# Altium integrated library Xilinx Spartan-3.IntLib: 75 symbols (part 7 of 16)
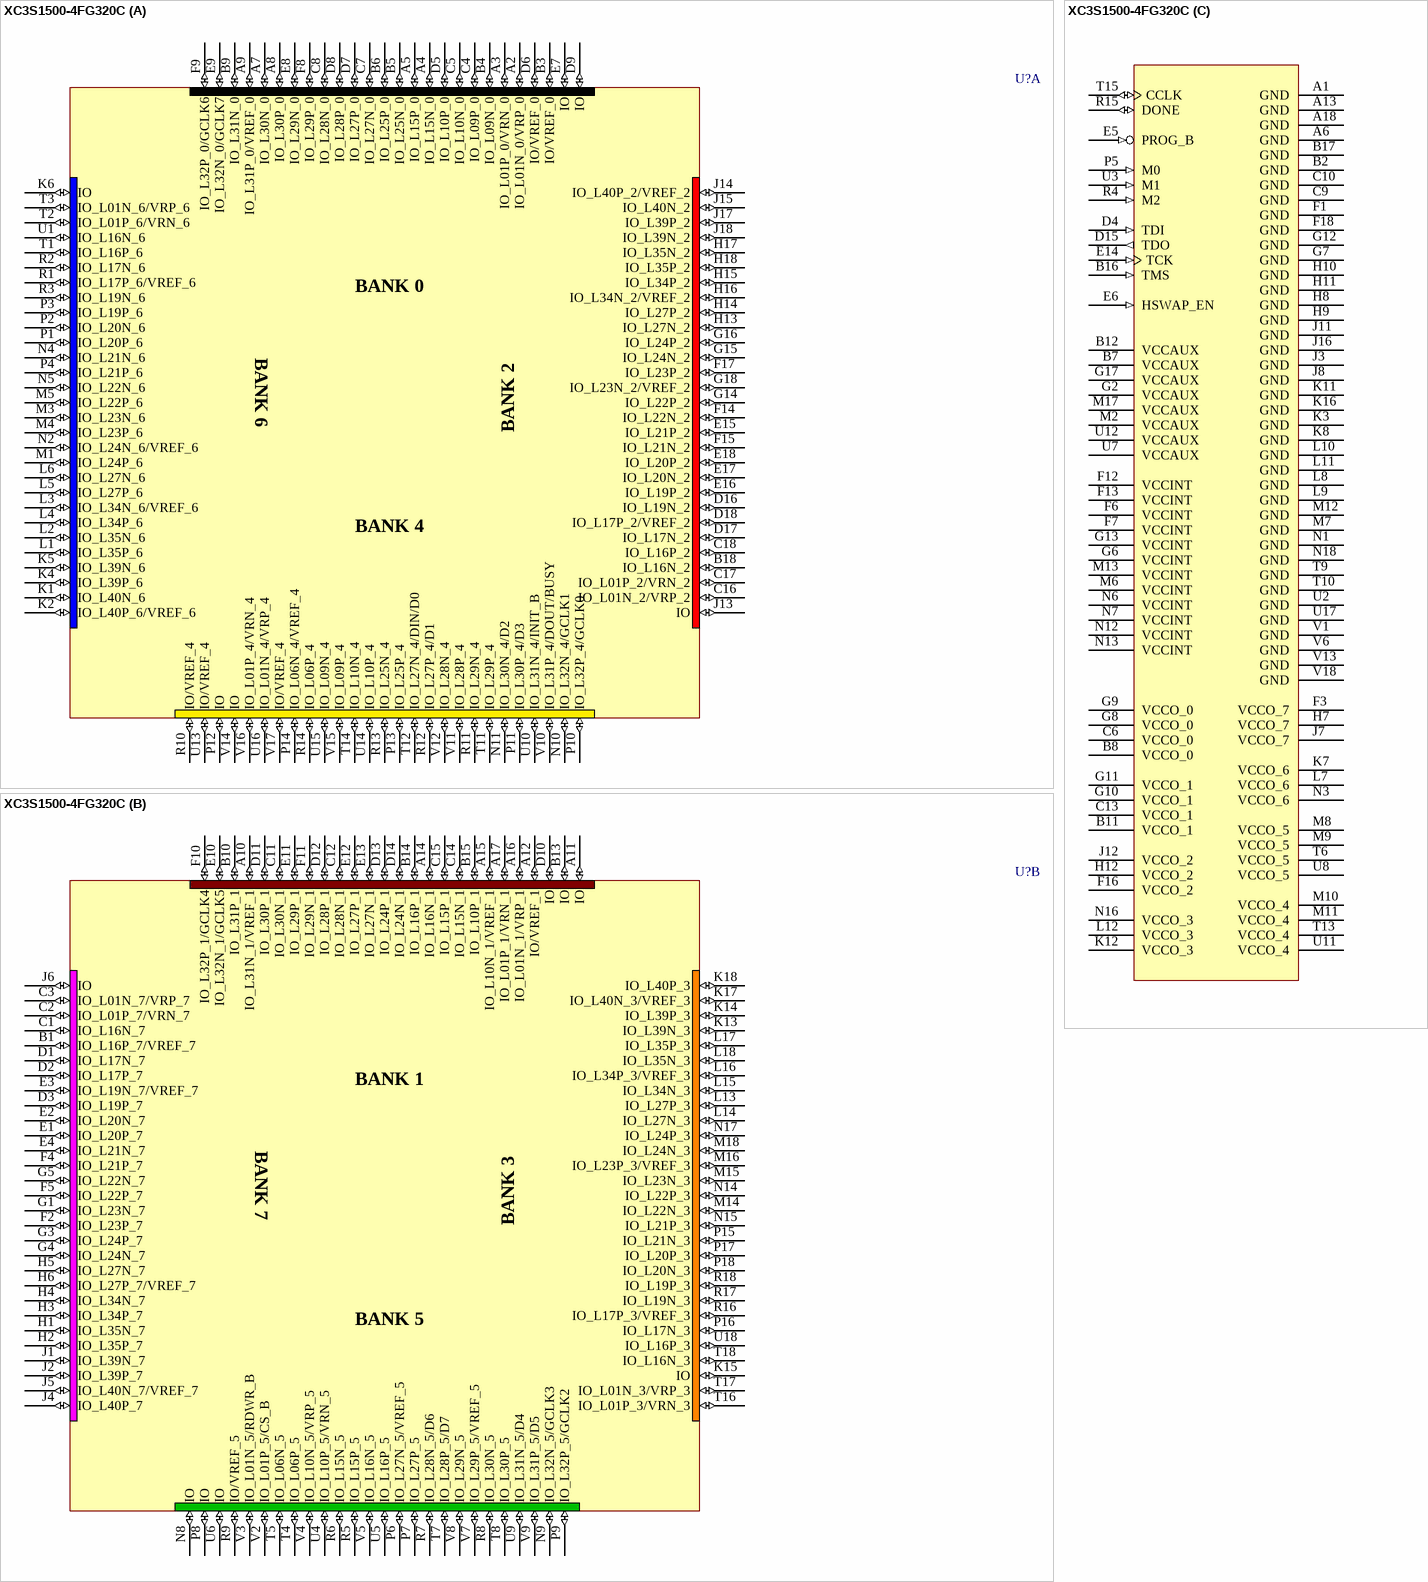
[diagram p173: symbol XC3S1500-4FG320C]

## XC3S1500-4FG320C
designator U?
Spartan-3 1.2V FPGA, 221 User I/Os, 320-ball FBGA, Standard Performance, Commercial Grade; PackageDocument: ver1.0, Jan-2004; Published: 17-Dec-2003; DatasheetDocument: 04-Mar-2004; PackageReference: FG320; Publisher: Altium Limited; Code_JEDEC: MS-034-AAG-1
footprint FG320 (320-Ball Fine-Pitch Ball Grid Array (FG320))
3D model XC3S1500-FG320 (320-Ball Fine-Pitch Ball Grid Array (FG320))
signal-integrity model XC3S1500_FG320 (Spartan-3)
part A pins: A2 IO_L01N_0/VRP_0 (io), A3 IO_L01P_0/VRN_0 (io), A4 IO_L15N_0 (io), A5 IO_L15P_0 (io), A7 IO_L30N_0 (io), A8 IO_L30P_0 (io), A9 IO_L31P_0/VREF_0 (io), B3 IO/VREF_0 (io), B4 IO_L09N_0 (io), B5 IO_L25N_0 (io), B6 IO_L25P_0 (io), B9 IO_L31N_0 (io), B18 IO_L16N_2 (io), C4 IO_L09P_0 (io), C5 IO_L10N_0 (io), C7 IO_L27N_0 (io), C8 IO_L28N_0 (io), C16 IO_L01N_2/VRP_2 (io), C17 IO_L01P_2/VRN_2 (io), C18 IO_L16P_2 (io), D5 IO_L10P_0 (io), D6 IO/VREF_0 (io), D7 IO_L27P_0 (io), D8 IO_L28P_0 (io), D9 IO (io), D16 IO_L19N_2 (io), D17 IO_L17N_2 (io), D18 IO_L17P_2/VREF_2 (io), E7 IO (io), E8 IO_L29N_0 (io), E9 IO_L32N_0/GCLK7 (io), E15 IO_L21P_2 (io), E16 IO_L19P_2 (io), E17 IO_L20N_2 (io), E18 IO_L20P_2 (io), F8 IO_L29P_0 (io), F9 IO_L32P_0/GCLK6 (io), F14 IO_L22N_2 (io), F15 IO_L21N_2 (io), F17 IO_L23P_2 (io), G14 IO_L22P_2 (io), G15 IO_L24N_2 (io), G16 IO_L24P_2 (io), G18 IO_L23N_2/VREF_2 (io), H13 IO_L27N_2 (io), H14 IO_L27P_2 (io), H15 IO_L34P_2 (io), H16 IO_L34N_2/VREF_2 (io), H17 IO_L35N_2 (io), H18 IO_L35P_2 (io), J13 IO (io), J14 IO_L40P_2/VREF_2 (io), J15 IO_L40N_2 (io), J17 IO_L39P_2 (io), J18 IO_L39N_2 (io), K1 IO_L40N_6 (io), K2 IO_L40P_6/VREF_6 (io), K4 IO_L39P_6 (io), K5 IO_L39N_6 (io), K6 IO (io), L1 IO_L35P_6 (io), L2 IO_L35N_6 (io), L3 IO_L34N_6/VREF_6 (io), L4 IO_L34P_6 (io), L5 IO_L27P_6 (io), L6 IO_L27N_6 (io), M1 IO_L24P_6 (io), M3 IO_L23N_6 (io), M4 IO_L23P_6 (io), M5 IO_L22P_6 (io), N2 IO_L24N_6/VREF_6 (io), N4 IO_L21N_6 (io), N5 IO_L22N_6 (io), N10 IO_L32N_4/GCLK1 (io), N11 IO_L30N_4/D2 (io), P1 IO_L20P_6 (io), P2 IO_L20N_6 (io), P3 IO_L19P_6 (io), P4 IO_L21P_6 (io), P10 IO_L32P_4/GCLK0 (io), P11 IO_L30P_4/D3 (io), P12 IO (io), P13 IO_L25P_4 (io), P14 IO_L06N_4/VREF_4 (io), R1 IO_L17P_6/VREF_6 (io), R2 IO_L17N_6 (io), R3 IO_L19N_6 (io), R10 IO/VREF_4 (io), R11 IO_L29N_4 (io), R12 IO_L27P_4/D1 (io), R13 IO_L25N_4 (io), R14 IO_L06P_4 (io), T1 IO_L16P_6 (io), T2 IO_L01P_6/VRN_6 (io), T3 IO_L01N_6/VRP_6 (io), T11 IO_L29P_4 (io), T12 IO_L27N_4/DIN/D0 (io), T14 IO_L10N_4 (io), U1 IO_L16N_6 (io), U10 IO_L31N_4/INIT_B (io), U13 IO/VREF_4 (io), U14 IO_L10P_4 (io), U15 IO_L09N_4 (io), U16 IO_L01N_4/VRP_4 (io), V10 IO_L31P_4/DOUT/BUSY (io), V11 IO_L28P_4 (io), V12 IO_L28N_4 (io), V14 IO (io), V15 IO_L09P_4 (io), V16 IO_L01P_4/VRN_4 (io), V17 IO/VREF_4 (io)
part B pins: A10 IO_L31N_1/VREF_1 (io), A11 IO (io), A12 IO/VREF_1 (io), A14 IO_L16N_1 (io), A15 IO_L10N_1/VREF_1 (io), A16 IO_L01N_1/VRP_1 (io), A17 IO_L01P_1/VRN_1 (io), B1 IO_L16P_7/VREF_7 (io), B10 IO_L31P_1 (io), B13 IO (io), B14 IO_L16P_1 (io), B15 IO_L10P_1 (io), C1 IO_L16N_7 (io), C2 IO_L01P_7/VRN_7 (io), C3 IO_L01N_7/VRP_7 (io), C11 IO_L30N_1 (io), C12 IO_L28N_1 (io), C14 IO_L15N_1 (io), C15 IO_L15P_1 (io), D1 IO_L17N_7 (io), D2 IO_L17P_7 (io), D3 IO_L19P_7 (io), D10 IO (io), D11 IO_L30P_1 (io), D12 IO_L28P_1 (io), D13 IO_L24P_1 (io), D14 IO_L24N_1 (io), E1 IO_L20P_7 (io), E2 IO_L20N_7 (io), E3 IO_L19N_7/VREF_7 (io), E4 IO_L21N_7 (io), E10 IO_L32N_1/GCLK5 (io), E11 IO_L29P_1 (io), E12 IO_L27P_1 (io), E13 IO_L27N_1 (io), F2 IO_L23P_7 (io), F4 IO_L21P_7 (io), F5 IO_L22P_7 (io), F10 IO_L32P_1/GCLK4 (io), F11 IO_L29N_1 (io), G1 IO_L23N_7 (io), G3 IO_L24P_7 (io), G4 IO_L24N_7 (io), G5 IO_L22N_7 (io), H1 IO_L35N_7 (io), H2 IO_L35P_7 (io), H3 IO_L34P_7 (io), H4 IO_L34N_7 (io), H5 IO_L27N_7 (io), H6 IO_L27P_7/VREF_7 (io), J1 IO_L39N_7 (io), J2 IO_L39P_7 (io), J4 IO_L40P_7 (io), J5 IO_L40N_7/VREF_7 (io), J6 IO (io), K13 IO_L39N_3 (io), K14 IO_L39P_3 (io), K15 IO (io), K17 IO_L40N_3/VREF_3 (io), K18 IO_L40P_3 (io), L13 IO_L27P_3 (io), L14 IO_L27N_3 (io), L15 IO_L34N_3 (io), L16 IO_L34P_3/VREF_3 (io), L17 IO_L35P_3 (io), L18 IO_L35N_3 (io), M14 IO_L22N_3 (io), M15 IO_L23N_3 (io), M16 IO_L23P_3/VREF_3 (io), M18 IO_L24N_3 (io), N8 IO (io), N9 IO_L32N_5/GCLK3 (io), N14 IO_L22P_3 (io), N15 IO_L21P_3 (io), N17 IO_L24P_3 (io), P6 IO_L27N_5/VREF_5 (io), P7 IO_L27P_5 (io), P8 IO (io), P9 IO_L32P_5/GCLK2 (io), P15 IO_L21N_3 (io), P16 IO_L17N_3 (io), P17 IO_L20P_3 (io), P18 IO_L20N_3 (io), R5 IO_L15P_5 (io), R6 IO_L15N_5 (io), R7 IO_L28N_5/D6 (io), R8 IO_L30N_5 (io), R9 IO/VREF_5 (io), R16 IO_L17P_3/VREF_3 (io), R17 IO_L19N_3 (io), R18 IO_L19P_3 (io), T4 IO_L06P_5 (io), T5 IO_L06N_5 (io), T7 IO_L28P_5/D7 (io), T8 IO_L30P_5 (io), T16 IO_L01P_3/VRN_3 (io), T17 IO_L01N_3/VRP_3 (io), T18 IO_L16N_3 (io), U4 IO_L10P_5/VRN_5 (io), U5 IO_L16P_5 (io), U6 IO (io), U9 IO_L31N_5/D4 (io), U18 IO_L16P_3 (io), V2 IO_L01P_5/CS_B (io), V3 IO_L01N_5/RDWR_B (io), V4 IO_L10N_5/VRP_5 (io), V5 IO_L16N_5 (io), V7 IO_L29P_5/VREF_5 (io), V8 IO_L29N_5 (io), V9 IO_L31P_5/D5 (io)
part C pins: A1 GND (power), A6 GND (power), A13 GND (power), A18 GND (power), B2 GND (power), B7 VCCAUX (power), B8 VCCO_0 (power), B11 VCCO_1 (power), B12 VCCAUX (power), B16 TMS (in), B17 GND (power), C6 VCCO_0 (power), C9 GND (power), C10 GND (power), C13 VCCO_1 (power), D4 TDI (in), D15 TDO (out), E5 PROG_B (in), E6 HSWAP_EN (in), E14 TCK (in), F1 GND (power), F3 VCCO_7 (power), F6 VCCINT (power), F7 VCCINT (power), F12 VCCINT (power), F13 VCCINT (power), F16 VCCO_2 (power), F18 GND (power), G2 VCCAUX (power), G6 VCCINT (power), G7 GND (power), G8 VCCO_0 (power), G9 VCCO_0 (power), G10 VCCO_1 (power), G11 VCCO_1 (power), G12 GND (power), G13 VCCINT (power), G17 VCCAUX (power), H7 VCCO_7 (power), H8 GND (power), H9 GND (power), H10 GND (power), H11 GND (power), H12 VCCO_2 (power), J3 GND (power), J7 VCCO_7 (power), J8 GND (power), J11 GND (power), J12 VCCO_2 (power), J16 GND (power), K3 GND (power), K7 VCCO_6 (power), K8 GND (power), K11 GND (power), K12 VCCO_3 (power), K16 GND (power), L7 VCCO_6 (power), L8 GND (power), L9 GND (power), L10 GND (power), L11 GND (power), L12 VCCO_3 (power), M2 VCCAUX (power), M6 VCCINT (power), M7 GND (power), M8 VCCO_5 (power), M9 VCCO_5 (power), M10 VCCO_4 (power), M11 VCCO_4 (power), M12 GND (power), M13 VCCINT (power), M17 VCCAUX (power), N1 GND (power), N3 VCCO_6 (power), N6 VCCINT (power), N7 VCCINT (power), N12 VCCINT (power), N13 VCCINT (power), N16 VCCO_3 (power), N18 GND (power), P5 M0 (in), R4 M2 (in), R15 DONE (io), T6 VCCO_5 (power), T9 GND (power), T10 GND (power), T13 VCCO_4 (power), T15 CCLK (io), U2 GND (power), U3 M1 (in), U7 VCCAUX (power), U8 VCCO_5 (power), U11 VCCO_4 (power), U12 VCCAUX (power), U17 GND (power), V1 GND (power), V6 GND (power), V13 GND (power), V18 GND (power)
part A text: BANK 0; BANK 6; BANK 2; BANK 4
part B text: BANK 1; BANK 7; BANK 3; BANK 5

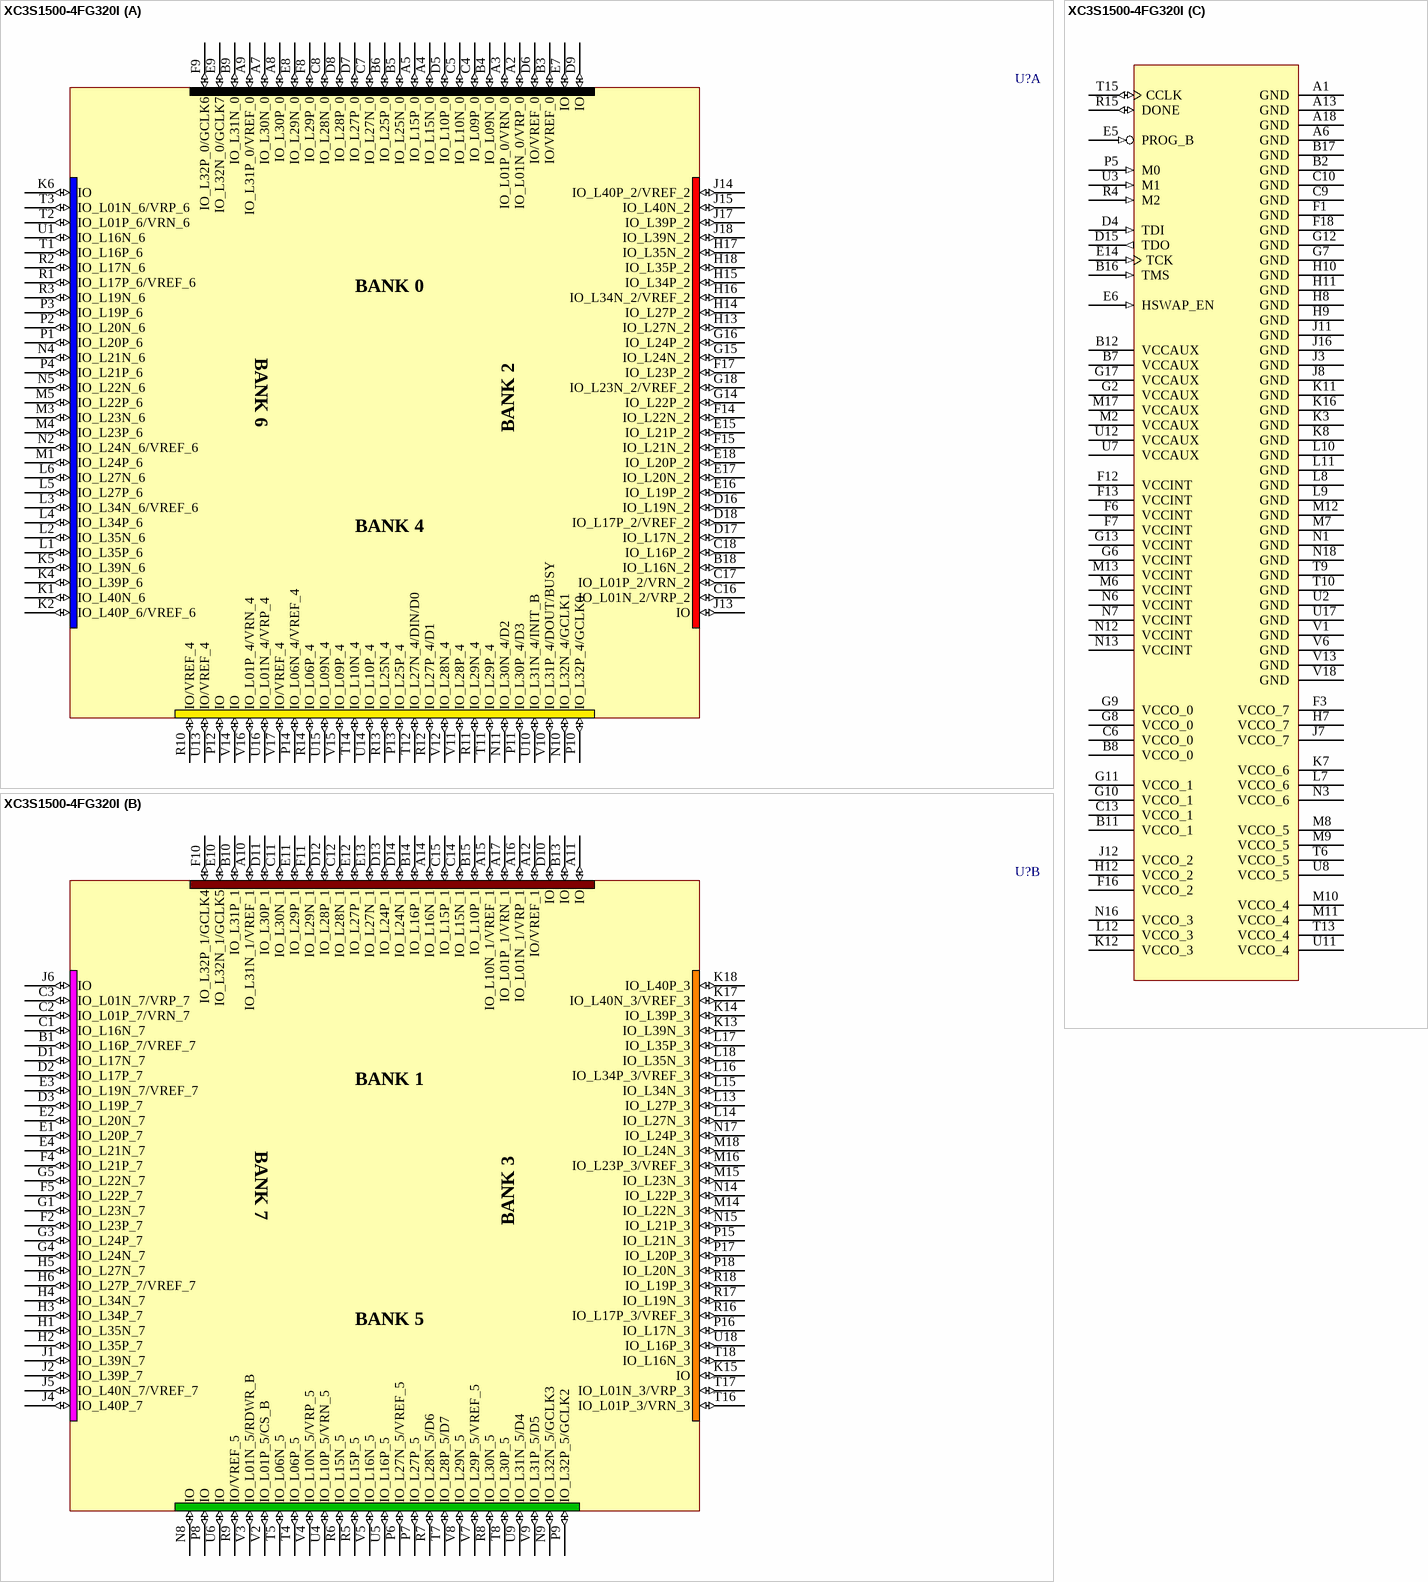
[diagram p61: symbol XC3S1500-4FG320I]

## XC3S1500-4FG320I
designator U?
Spartan-3 1.2V FPGA, 221 User I/Os, 320-ball FBGA, Standard Performance, Industrial Grade; PackageDocument: ver1.0, Jan-2004; Published: 17-Dec-2003; DatasheetDocument: 04-Mar-2004; PackageReference: FG320; Publisher: Altium Limited; Code_JEDEC: MS-034-AAG-1
footprint FG320 (320-Ball Fine-Pitch Ball Grid Array (FG320))
3D model XC3S1500-FG320 (320-Ball Fine-Pitch Ball Grid Array (FG320))
signal-integrity model XC3S1500_FG320 (Spartan-3)
part A pins: A2 IO_L01N_0/VRP_0 (io), A3 IO_L01P_0/VRN_0 (io), A4 IO_L15N_0 (io), A5 IO_L15P_0 (io), A7 IO_L30N_0 (io), A8 IO_L30P_0 (io), A9 IO_L31P_0/VREF_0 (io), B3 IO/VREF_0 (io), B4 IO_L09N_0 (io), B5 IO_L25N_0 (io), B6 IO_L25P_0 (io), B9 IO_L31N_0 (io), B18 IO_L16N_2 (io), C4 IO_L09P_0 (io), C5 IO_L10N_0 (io), C7 IO_L27N_0 (io), C8 IO_L28N_0 (io), C16 IO_L01N_2/VRP_2 (io), C17 IO_L01P_2/VRN_2 (io), C18 IO_L16P_2 (io), D5 IO_L10P_0 (io), D6 IO/VREF_0 (io), D7 IO_L27P_0 (io), D8 IO_L28P_0 (io), D9 IO (io), D16 IO_L19N_2 (io), D17 IO_L17N_2 (io), D18 IO_L17P_2/VREF_2 (io), E7 IO (io), E8 IO_L29N_0 (io), E9 IO_L32N_0/GCLK7 (io), E15 IO_L21P_2 (io), E16 IO_L19P_2 (io), E17 IO_L20N_2 (io), E18 IO_L20P_2 (io), F8 IO_L29P_0 (io), F9 IO_L32P_0/GCLK6 (io), F14 IO_L22N_2 (io), F15 IO_L21N_2 (io), F17 IO_L23P_2 (io), G14 IO_L22P_2 (io), G15 IO_L24N_2 (io), G16 IO_L24P_2 (io), G18 IO_L23N_2/VREF_2 (io), H13 IO_L27N_2 (io), H14 IO_L27P_2 (io), H15 IO_L34P_2 (io), H16 IO_L34N_2/VREF_2 (io), H17 IO_L35N_2 (io), H18 IO_L35P_2 (io), J13 IO (io), J14 IO_L40P_2/VREF_2 (io), J15 IO_L40N_2 (io), J17 IO_L39P_2 (io), J18 IO_L39N_2 (io), K1 IO_L40N_6 (io), K2 IO_L40P_6/VREF_6 (io), K4 IO_L39P_6 (io), K5 IO_L39N_6 (io), K6 IO (io), L1 IO_L35P_6 (io), L2 IO_L35N_6 (io), L3 IO_L34N_6/VREF_6 (io), L4 IO_L34P_6 (io), L5 IO_L27P_6 (io), L6 IO_L27N_6 (io), M1 IO_L24P_6 (io), M3 IO_L23N_6 (io), M4 IO_L23P_6 (io), M5 IO_L22P_6 (io), N2 IO_L24N_6/VREF_6 (io), N4 IO_L21N_6 (io), N5 IO_L22N_6 (io), N10 IO_L32N_4/GCLK1 (io), N11 IO_L30N_4/D2 (io), P1 IO_L20P_6 (io), P2 IO_L20N_6 (io), P3 IO_L19P_6 (io), P4 IO_L21P_6 (io), P10 IO_L32P_4/GCLK0 (io), P11 IO_L30P_4/D3 (io), P12 IO (io), P13 IO_L25P_4 (io), P14 IO_L06N_4/VREF_4 (io), R1 IO_L17P_6/VREF_6 (io), R2 IO_L17N_6 (io), R3 IO_L19N_6 (io), R10 IO/VREF_4 (io), R11 IO_L29N_4 (io), R12 IO_L27P_4/D1 (io), R13 IO_L25N_4 (io), R14 IO_L06P_4 (io), T1 IO_L16P_6 (io), T2 IO_L01P_6/VRN_6 (io), T3 IO_L01N_6/VRP_6 (io), T11 IO_L29P_4 (io), T12 IO_L27N_4/DIN/D0 (io), T14 IO_L10N_4 (io), U1 IO_L16N_6 (io), U10 IO_L31N_4/INIT_B (io), U13 IO/VREF_4 (io), U14 IO_L10P_4 (io), U15 IO_L09N_4 (io), U16 IO_L01N_4/VRP_4 (io), V10 IO_L31P_4/DOUT/BUSY (io), V11 IO_L28P_4 (io), V12 IO_L28N_4 (io), V14 IO (io), V15 IO_L09P_4 (io), V16 IO_L01P_4/VRN_4 (io), V17 IO/VREF_4 (io)
part B pins: A10 IO_L31N_1/VREF_1 (io), A11 IO (io), A12 IO/VREF_1 (io), A14 IO_L16N_1 (io), A15 IO_L10N_1/VREF_1 (io), A16 IO_L01N_1/VRP_1 (io), A17 IO_L01P_1/VRN_1 (io), B1 IO_L16P_7/VREF_7 (io), B10 IO_L31P_1 (io), B13 IO (io), B14 IO_L16P_1 (io), B15 IO_L10P_1 (io), C1 IO_L16N_7 (io), C2 IO_L01P_7/VRN_7 (io), C3 IO_L01N_7/VRP_7 (io), C11 IO_L30N_1 (io), C12 IO_L28N_1 (io), C14 IO_L15N_1 (io), C15 IO_L15P_1 (io), D1 IO_L17N_7 (io), D2 IO_L17P_7 (io), D3 IO_L19P_7 (io), D10 IO (io), D11 IO_L30P_1 (io), D12 IO_L28P_1 (io), D13 IO_L24P_1 (io), D14 IO_L24N_1 (io), E1 IO_L20P_7 (io), E2 IO_L20N_7 (io), E3 IO_L19N_7/VREF_7 (io), E4 IO_L21N_7 (io), E10 IO_L32N_1/GCLK5 (io), E11 IO_L29P_1 (io), E12 IO_L27P_1 (io), E13 IO_L27N_1 (io), F2 IO_L23P_7 (io), F4 IO_L21P_7 (io), F5 IO_L22P_7 (io), F10 IO_L32P_1/GCLK4 (io), F11 IO_L29N_1 (io), G1 IO_L23N_7 (io), G3 IO_L24P_7 (io), G4 IO_L24N_7 (io), G5 IO_L22N_7 (io), H1 IO_L35N_7 (io), H2 IO_L35P_7 (io), H3 IO_L34P_7 (io), H4 IO_L34N_7 (io), H5 IO_L27N_7 (io), H6 IO_L27P_7/VREF_7 (io), J1 IO_L39N_7 (io), J2 IO_L39P_7 (io), J4 IO_L40P_7 (io), J5 IO_L40N_7/VREF_7 (io), J6 IO (io), K13 IO_L39N_3 (io), K14 IO_L39P_3 (io), K15 IO (io), K17 IO_L40N_3/VREF_3 (io), K18 IO_L40P_3 (io), L13 IO_L27P_3 (io), L14 IO_L27N_3 (io), L15 IO_L34N_3 (io), L16 IO_L34P_3/VREF_3 (io), L17 IO_L35P_3 (io), L18 IO_L35N_3 (io), M14 IO_L22N_3 (io), M15 IO_L23N_3 (io), M16 IO_L23P_3/VREF_3 (io), M18 IO_L24N_3 (io), N8 IO (io), N9 IO_L32N_5/GCLK3 (io), N14 IO_L22P_3 (io), N15 IO_L21P_3 (io), N17 IO_L24P_3 (io), P6 IO_L27N_5/VREF_5 (io), P7 IO_L27P_5 (io), P8 IO (io), P9 IO_L32P_5/GCLK2 (io), P15 IO_L21N_3 (io), P16 IO_L17N_3 (io), P17 IO_L20P_3 (io), P18 IO_L20N_3 (io), R5 IO_L15P_5 (io), R6 IO_L15N_5 (io), R7 IO_L28N_5/D6 (io), R8 IO_L30N_5 (io), R9 IO/VREF_5 (io), R16 IO_L17P_3/VREF_3 (io), R17 IO_L19N_3 (io), R18 IO_L19P_3 (io), T4 IO_L06P_5 (io), T5 IO_L06N_5 (io), T7 IO_L28P_5/D7 (io), T8 IO_L30P_5 (io), T16 IO_L01P_3/VRN_3 (io), T17 IO_L01N_3/VRP_3 (io), T18 IO_L16N_3 (io), U4 IO_L10P_5/VRN_5 (io), U5 IO_L16P_5 (io), U6 IO (io), U9 IO_L31N_5/D4 (io), U18 IO_L16P_3 (io), V2 IO_L01P_5/CS_B (io), V3 IO_L01N_5/RDWR_B (io), V4 IO_L10N_5/VRP_5 (io), V5 IO_L16N_5 (io), V7 IO_L29P_5/VREF_5 (io), V8 IO_L29N_5 (io), V9 IO_L31P_5/D5 (io)
part C pins: A1 GND (power), A6 GND (power), A13 GND (power), A18 GND (power), B2 GND (power), B7 VCCAUX (power), B8 VCCO_0 (power), B11 VCCO_1 (power), B12 VCCAUX (power), B16 TMS (in), B17 GND (power), C6 VCCO_0 (power), C9 GND (power), C10 GND (power), C13 VCCO_1 (power), D4 TDI (in), D15 TDO (out), E5 PROG_B (in), E6 HSWAP_EN (in), E14 TCK (in), F1 GND (power), F3 VCCO_7 (power), F6 VCCINT (power), F7 VCCINT (power), F12 VCCINT (power), F13 VCCINT (power), F16 VCCO_2 (power), F18 GND (power), G2 VCCAUX (power), G6 VCCINT (power), G7 GND (power), G8 VCCO_0 (power), G9 VCCO_0 (power), G10 VCCO_1 (power), G11 VCCO_1 (power), G12 GND (power), G13 VCCINT (power), G17 VCCAUX (power), H7 VCCO_7 (power), H8 GND (power), H9 GND (power), H10 GND (power), H11 GND (power), H12 VCCO_2 (power), J3 GND (power), J7 VCCO_7 (power), J8 GND (power), J11 GND (power), J12 VCCO_2 (power), J16 GND (power), K3 GND (power), K7 VCCO_6 (power), K8 GND (power), K11 GND (power), K12 VCCO_3 (power), K16 GND (power), L7 VCCO_6 (power), L8 GND (power), L9 GND (power), L10 GND (power), L11 GND (power), L12 VCCO_3 (power), M2 VCCAUX (power), M6 VCCINT (power), M7 GND (power), M8 VCCO_5 (power), M9 VCCO_5 (power), M10 VCCO_4 (power), M11 VCCO_4 (power), M12 GND (power), M13 VCCINT (power), M17 VCCAUX (power), N1 GND (power), N3 VCCO_6 (power), N6 VCCINT (power), N7 VCCINT (power), N12 VCCINT (power), N13 VCCINT (power), N16 VCCO_3 (power), N18 GND (power), P5 M0 (in), R4 M2 (in), R15 DONE (io), T6 VCCO_5 (power), T9 GND (power), T10 GND (power), T13 VCCO_4 (power), T15 CCLK (io), U2 GND (power), U3 M1 (in), U7 VCCAUX (power), U8 VCCO_5 (power), U11 VCCO_4 (power), U12 VCCAUX (power), U17 GND (power), V1 GND (power), V6 GND (power), V13 GND (power), V18 GND (power)
part A text: BANK 0; BANK 6; BANK 2; BANK 4
part B text: BANK 1; BANK 7; BANK 3; BANK 5

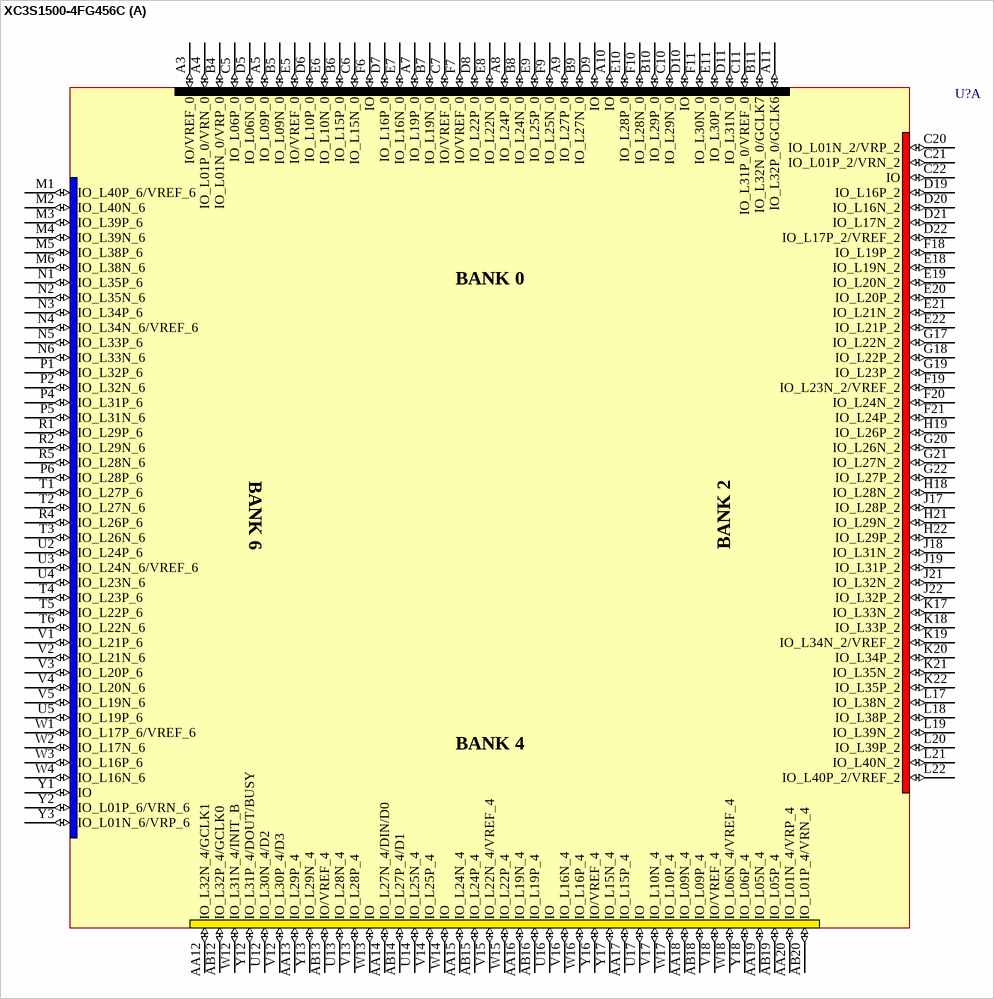
[diagram p62: symbol XC3S1500-4FG456C]

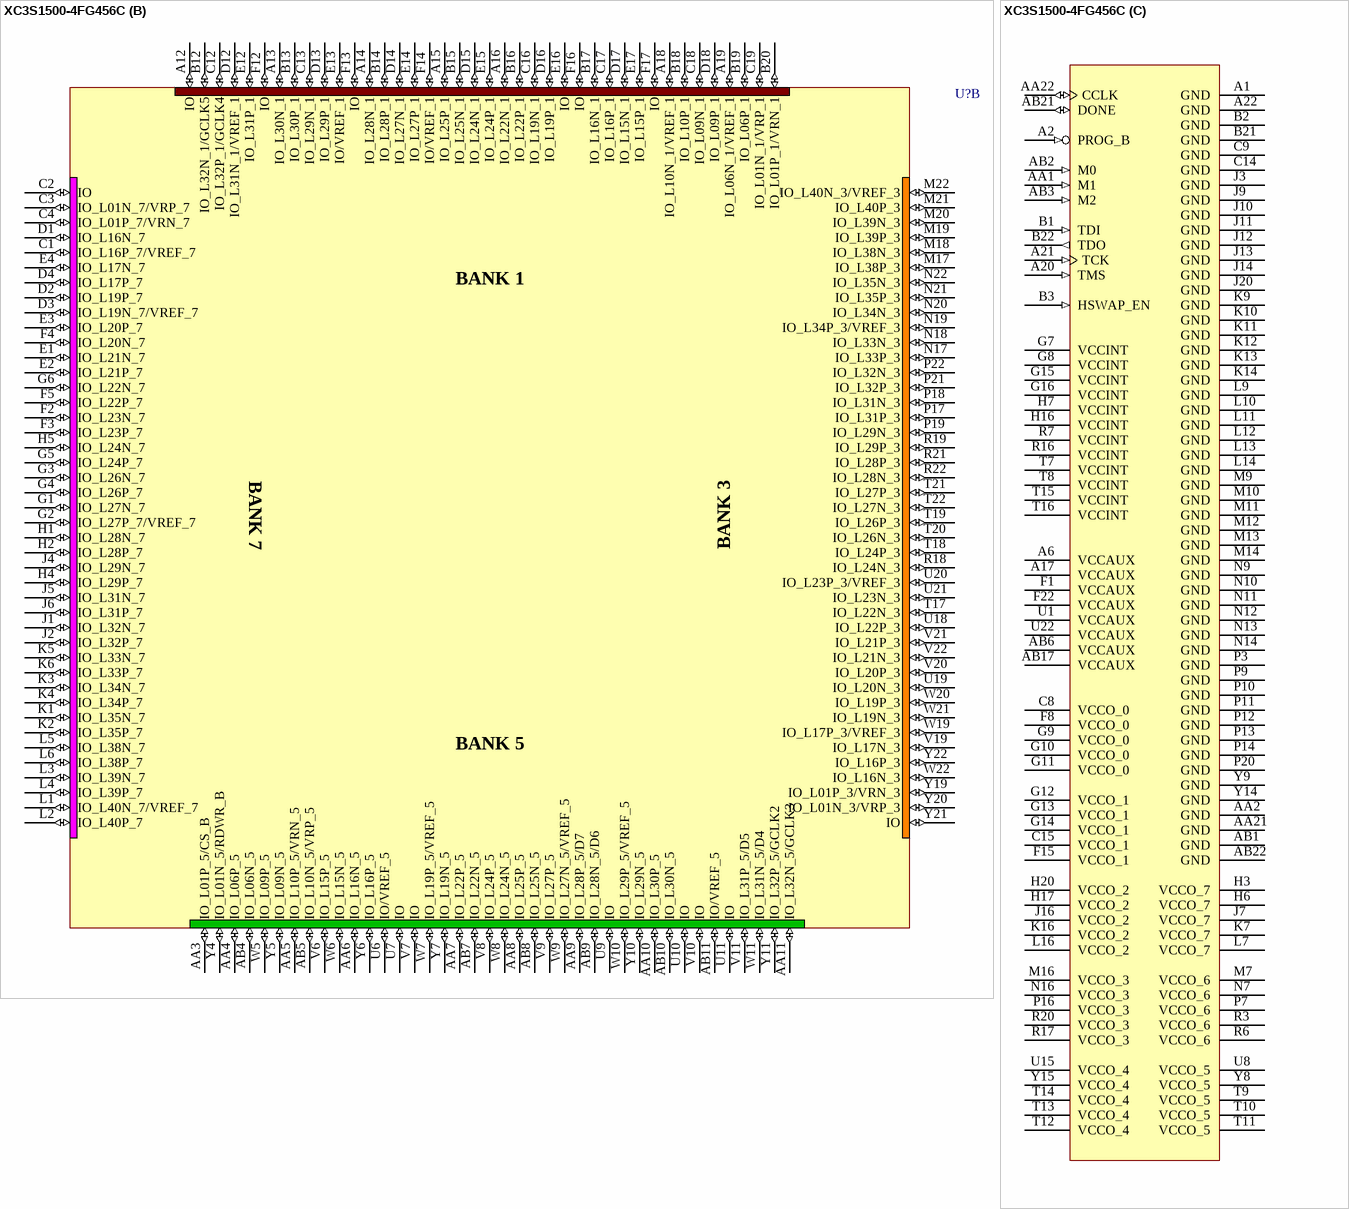
[diagram p63: symbol XC3S1500-4FG456C]

## XC3S1500-4FG456C
designator U?
Spartan-3 1.2V FPGA, 333 User I/Os, 456-ball FBGA, Standard Performance, Commercial Grade; PackageDocument: ver1.1, Apr-2001; Published: 17-Sep-2003; DatasheetDocument: 04-Mar-2004; PackageReference: FG456; Publisher: Altium Limited; Code_JEDEC: MO-151-AAJ-1
footprint FG456 (456-Ball Fine Pitch Ball Grid Array (FG456))
3D model XC3S1500-FG456 (456-Ball Fine Pitch Ball Grid Array (FG456))
signal-integrity model XC3S1500_FG456 (Spartan-3)
part A pins: A3 IO/VREF_0 (io), A4 IO_L01P_0/VRN_0 (io), A5 IO_L09P_0 (io), A7 IO_L19P_0 (io), A8 IO_L24P_0 (io), A9 IO_L27P_0 (io), A10 IO (io), A11 IO_L32P_0/GCLK6 (io), AA12 IO_L32N_4/GCLK1 (io), AA13 IO_L29P_4 (io), AA14 IO_L27N_4/DIN/D0 (io), AA15 IO_L24N_4 (io), AA16 IO_L19N_4 (io), AA17 IO_L15P_4 (io), AA18 IO_L09N_4 (io), AA19 IO_L05N_4 (io), AA20 IO_L01N_4/VRP_4 (io), AB12 IO_L32P_4/GCLK0 (io), AB13 IO/VREF_4 (io), AB14 IO_L27P_4/D1 (io), AB15 IO_L24P_4 (io), AB16 IO_L19P_4 (io), AB18 IO_L09P_4 (io), AB19 IO_L05P_4 (io), AB20 IO_L01P_4/VRN_4 (io), B4 IO_L01N_0/VRP_0 (io), B5 IO_L09N_0 (io), B6 IO_L15P_0 (io), B7 IO_L19N_0 (io), B8 IO_L24N_0 (io), B9 IO_L27N_0 (io), B10 IO_L29P_0 (io), B11 IO_L32N_0/GCLK7 (io), C5 IO_L06P_0 (io), C6 IO_L15N_0 (io), C7 IO/VREF_0 (io), C10 IO_L29N_0 (io), C11 IO_L31P_0/VREF_0 (io), C20 IO_L01N_2/VRP_2 (io), C21 IO_L01P_2/VRN_2 (io), C22 IO (io), D5 IO_L06N_0 (io), D6 IO_L10P_0 (io), D7 IO_L16P_0 (io), D8 IO_L22P_0 (io), D9 IO (io), D10 IO (io), D11 IO_L31N_0 (io), D19 IO_L16P_2 (io), D20 IO_L16N_2 (io), D21 IO_L17N_2 (io), D22 IO_L17P_2/VREF_2 (io), E5 IO/VREF_0 (io), E6 IO_L10N_0 (io), E7 IO_L16N_0 (io), E8 IO_L22N_0 (io), E9 IO_L25P_0 (io), E10 IO_L28P_0 (io), E11 IO_L30P_0 (io), E18 IO_L19N_2 (io), E19 IO_L20N_2 (io), E20 IO_L20P_2 (io), E21 IO_L21N_2 (io), E22 IO_L21P_2 (io), F6 IO (io), F7 IO/VREF_0 (io), F9 IO_L25N_0 (io), F10 IO_L28N_0 (io), F11 IO_L30N_0 (io), F18 IO_L19P_2 (io), F19 IO_L23N_2/VREF_2 (io), F20 IO_L24N_2 (io), F21 IO_L24P_2 (io), G17 IO_L22N_2 (io), G18 IO_L22P_2 (io), G19 IO_L23P_2 (io), G20 IO_L26N_2 (io), G21 IO_L27N_2 (io), G22 IO_L27P_2 (io), H18 IO_L28N_2 (io), H19 IO_L26P_2 (io), H21 IO_L29N_2 (io), H22 IO_L29P_2 (io), J17 IO_L28P_2 (io), J18 IO_L31N_2 (io), J19 IO_L31P_2 (io), J21 IO_L32N_2 (io), J22 IO_L32P_2 (io), K17 IO_L33N_2 (io), K18 IO_L33P_2 (io), K19 IO_L34N_2/VREF_2 (io), K20 IO_L34P_2 (io), K21 IO_L35N_2 (io), K22 IO_L35P_2 (io), L17 IO_L38N_2 (io), L18 IO_L38P_2 (io), L19 IO_L39N_2 (io), L20 IO_L39P_2 (io), L21 IO_L40N_2 (io), L22 IO_L40P_2/VREF_2 (io), M1 IO_L40P_6/VREF_6 (io), M2 IO_L40N_6 (io), M3 IO_L39P_6 (io), M4 IO_L39N_6 (io), M5 IO_L38P_6 (io), M6 IO_L38N_6 (io), N1 IO_L35P_6 (io), N2 IO_L35N_6 (io), N3 IO_L34P_6 (io), N4 IO_L34N_6/VREF_6 (io), N5 IO_L33P_6 (io), N6 IO_L33N_6 (io), P1 IO_L32P_6 (io), P2 IO_L32N_6 (io), P4 IO_L31P_6 (io), P5 IO_L31N_6 (io), P6 IO_L28P_6 (io), R1 IO_L29P_6 (io), R2 IO_L29N_6 (io), R4 IO_L26P_6 (io), R5 IO_L28N_6 (io), T1 IO_L27P_6 (io), T2 IO_L27N_6 (io), T3 IO_L26N_6 (io), T4 IO_L23P_6 (io), T5 IO_L22P_6 (io), T6 IO_L22N_6 (io), U2 IO_L24P_6 (io), U3 IO_L24N_6/VREF_6 (io), U4 IO_L23N_6 (io), U5 IO_L19P_6 (io), U12 IO_L30N_4/D2 (io), U13 IO_L28N_4 (io), U14 IO_L25N_4 (io), U16 IO (io), U17 IO (io), V1 IO_L21P_6 (io), V2 IO_L21N_6 (io), V3 IO_L20P_6 (io), V4 IO_L20N_6 (io), V5 IO_L19N_6 (io), V12 IO_L30P_4/D3 (io), V13 IO_L28P_4 (io), V14 IO_L25P_4 (io), V15 IO_L22N_4/VREF_4 (io), V16 IO_L16N_4 (io), V17 IO_L10N_4 (io), V18 IO/VREF_4 (io), W1 IO_L17P_6/VREF_6 (io), W2 IO_L17N_6 (io), W3 IO_L16P_6 (io), W4 IO_L16N_6 (io), W12 IO_L31N_4/INIT_B (io), W13 IO (io), W14 IO (io), W15 IO_L22P_4 (io), W16 IO_L16P_4 (io), W17 IO_L10P_4 (io), W18 IO_L06N_4/VREF_4 (io), Y1 IO (io), Y2 IO_L01P_6/VRN_6 (io), Y3 IO_L01N_6/VRP_6 (io), Y12 IO_L31P_4/DOUT/BUSY (io), Y13 IO_L29N_4 (io), Y16 IO/VREF_4 (io), Y17 IO_L15N_4 (io), Y18 IO_L06P_4 (io)
part B pins: A12 IO (io), A13 IO_L30N_1 (io), A14 IO_L28N_1 (io), A15 IO_L25P_1 (io), A16 IO_L22N_1 (io), A18 IO_L10N_1/VREF_1 (io), A19 IO_L06N_1/VREF_1 (io), AA3 IO_L01P_5/CS_B (io), AA4 IO_L06P_5 (io), AA5 IO_L10P_5/VRN_5 (io), AA6 IO_L16N_5 (io), AA7 IO_L22P_5 (io), AA8 IO_L25P_5 (io), AA9 IO_L28P_5/D7 (io), AA10 IO_L30P_5 (io), AA11 IO_L32N_5/GCLK3 (io), AB4 IO_L06N_5 (io), AB5 IO_L10N_5/VRP_5 (io), AB7 IO_L22N_5 (io), AB8 IO_L25N_5 (io), AB9 IO_L28N_5/D6 (io), AB10 IO_L30N_5 (io), AB11 IO/VREF_5 (io), B12 IO_L32N_1/GCLK5 (io), B13 IO_L30P_1 (io), B14 IO_L28P_1 (io), B15 IO_L25N_1 (io), B16 IO_L22P_1 (io), B17 IO_L16N_1 (io), B18 IO_L10P_1 (io), B19 IO_L06P_1 (io), B20 IO_L01P_1/VRN_1 (io), C1 IO_L16P_7/VREF_7 (io), C2 IO (io), C3 IO_L01N_7/VRP_7 (io), C4 IO_L01P_7/VRN_7 (io), C12 IO_L32P_1/GCLK4 (io), C13 IO_L29N_1 (io), C16 IO_L19N_1 (io), C17 IO_L16P_1 (io), C18 IO_L09N_1 (io), C19 IO_L01N_1/VRP_1 (io), D1 IO_L16N_7 (io), D2 IO_L19P_7 (io), D3 IO_L19N_7/VREF_7 (io), D4 IO_L17P_7 (io), D12 IO_L31N_1/VREF_1 (io), D13 IO_L29P_1 (io), D14 IO_L27N_1 (io), D15 IO_L24N_1 (io), D16 IO_L19P_1 (io), D17 IO_L15N_1 (io), D18 IO_L09P_1 (io), E1 IO_L21N_7 (io), E2 IO_L21P_7 (io), E3 IO_L20P_7 (io), E4 IO_L17N_7 (io), E12 IO_L31P_1 (io), E13 IO/VREF_1 (io), E14 IO_L27P_1 (io), E15 IO_L24P_1 (io), E16 IO (io), E17 IO_L15P_1 (io), F2 IO_L23N_7 (io), F3 IO_L23P_7 (io), F4 IO_L20N_7 (io), F5 IO_L22P_7 (io), F12 IO (io), F13 IO (io), F14 IO/VREF_1 (io), F16 IO (io), F17 IO (io), G1 IO_L27N_7 (io), G2 IO_L27P_7/VREF_7 (io), G3 IO_L26N_7 (io), G4 IO_L26P_7 (io), G5 IO_L24P_7 (io), G6 IO_L22N_7 (io), H1 IO_L28N_7 (io), H2 IO_L28P_7 (io), H4 IO_L29P_7 (io), H5 IO_L24N_7 (io), J1 IO_L32N_7 (io), J2 IO_L32P_7 (io), J4 IO_L29N_7 (io), J5 IO_L31N_7 (io), J6 IO_L31P_7 (io), K1 IO_L35N_7 (io), K2 IO_L35P_7 (io), K3 IO_L34N_7 (io), K4 IO_L34P_7 (io), K5 IO_L33N_7 (io), K6 IO_L33P_7 (io), L1 IO_L40N_7/VREF_7 (io), L2 IO_L40P_7 (io), L3 IO_L39N_7 (io), L4 IO_L39P_7 (io), L5 IO_L38N_7 (io), L6 IO_L38P_7 (io), M17 IO_L38P_3 (io), M18 IO_L38N_3 (io), M19 IO_L39P_3 (io), M20 IO_L39N_3 (io), M21 IO_L40P_3 (io), M22 IO_L40N_3/VREF_3 (io), N17 IO_L33P_3 (io), N18 IO_L33N_3 (io), N19 IO_L34P_3/VREF_3 (io), N20 IO_L34N_3 (io), N21 IO_L35P_3 (io), N22 IO_L35N_3 (io), P17 IO_L31P_3 (io), P18 IO_L31N_3 (io), P19 IO_L29N_3 (io), P21 IO_L32P_3 (io), P22 IO_L32N_3 (io), R18 IO_L24N_3 (io), R19 IO_L29P_3 (io), R21 IO_L28P_3 (io), R22 IO_L28N_3 (io), T17 IO_L22N_3 (io), T18 IO_L24P_3 (io), T19 IO_L26P_3 (io), T20 IO_L26N_3 (io), T21 IO_L27P_3 (io), T22 IO_L27N_3 (io), U6 IO/VREF_5 (io), U7 IO (io), U9 IO (io), U10 IO (io), U11 IO (io), U18 IO_L22P_3 (io), U19 IO_L20N_3 (io), U20 IO_L23P_3/VREF_3 (io), U21 IO_L23N_3 (io), V6 IO_L15P_5 (io), V7 IO (io), V8 IO_L24P_5 (io), V9 IO_L27P_5 (io), V10 IO (io), V11 IO_L31P_5/D5 (io), V19 IO_L17N_3 (io), V20 IO_L20P_3 (io), V21 IO_L21P_3 (io), V22 IO_L21N_3 (io), W5 IO_L09P_5 (io), W6 IO_L15N_5 (io), W7 IO_L19P_5/VREF_5 (io), W8 IO_L24N_5 (io), W9 IO_L27N_5/VREF_5 (io), W10 IO_L29P_5/VREF_5 (io), W11 IO_L31N_5/D4 (io), W19 IO_L17P_3/VREF_3 (io), W20 IO_L19P_3 (io), W21 IO_L19N_3 (io), W22 IO_L16N_3 (io), Y4 IO_L01N_5/RDWR_B (io), Y5 IO_L09N_5 (io), Y6 IO_L16P_5 (io), Y7 IO_L19N_5 (io), Y10 IO_L29N_5 (io), Y11 IO_L32P_5/GCLK2 (io), Y19 IO_L01P_3/VRN_3 (io), Y20 IO_L01N_3/VRP_3 (io), Y21 IO (io), Y22 IO_L16P_3 (io)
part C pins: A1 GND (power), A2 PROG_B (in), A6 VCCAUX (power), A17 VCCAUX (power), A20 TMS (in), A21 TCK (in), A22 GND (power), AA1 M1 (in), AA2 GND (power), AA21 GND (power), AA22 CCLK (io), AB1 GND (power), AB2 M0 (in), AB3 M2 (in), AB6 VCCAUX (power), AB17 VCCAUX (power), AB21 DONE (io), AB22 GND (power), B1 TDI (in), B2 GND (power), B3 HSWAP_EN (in), B21 GND (power), B22 TDO (out), C8 VCCO_0 (power), C9 GND (power), C14 GND (power), C15 VCCO_1 (power), F1 VCCAUX (power), F8 VCCO_0 (power), F15 VCCO_1 (power), F22 VCCAUX (power), G7 VCCINT (power), G8 VCCINT (power), G9 VCCO_0 (power), G10 VCCO_0 (power), G11 VCCO_0 (power), G12 VCCO_1 (power), G13 VCCO_1 (power), G14 VCCO_1 (power), G15 VCCINT (power), G16 VCCINT (power), H3 VCCO_7 (power), H6 VCCO_7 (power), H7 VCCINT (power), H16 VCCINT (power), H17 VCCO_2 (power), H20 VCCO_2 (power), J3 GND (power), J7 VCCO_7 (power), J9 GND (power), J10 GND (power), J11 GND (power), J12 GND (power), J13 GND (power), J14 GND (power), J16 VCCO_2 (power), J20 GND (power), K7 VCCO_7 (power), K9 GND (power), K10 GND (power), K11 GND (power), K12 GND (power), K13 GND (power), K14 GND (power), K16 VCCO_2 (power), L7 VCCO_7 (power), L9 GND (power), L10 GND (power), L11 GND (power), L12 GND (power), L13 GND (power), L14 GND (power), L16 VCCO_2 (power), M7 VCCO_6 (power), M9 GND (power), M10 GND (power), M11 GND (power), M12 GND (power), M13 GND (power), M14 GND (power), M16 VCCO_3 (power), N7 VCCO_6 (power), N9 GND (power), N10 GND (power), N11 GND (power), N12 GND (power), N13 GND (power), N14 GND (power), N16 VCCO_3 (power), P3 GND (power), P7 VCCO_6 (power), P9 GND (power), P10 GND (power), P11 GND (power), P12 GND (power), P13 GND (power), P14 GND (power), P16 VCCO_3 (power), P20 GND (power), R3 VCCO_6 (power), R6 VCCO_6 (power), R7 VCCINT (power), R16 VCCINT (power), R17 VCCO_3 (power), R20 VCCO_3 (power), T7 VCCINT (power), T8 VCCINT (power), T9 VCCO_5 (power), T10 VCCO_5 (power), T11 VCCO_5 (power), T12 VCCO_4 (power), T13 VCCO_4 (power), T14 VCCO_4 (power), T15 VCCINT (power), T16 VCCINT (power), U1 VCCAUX (power), U8 VCCO_5 (power), U15 VCCO_4 (power), U22 VCCAUX (power), Y8 VCCO_5 (power), Y9 GND (power), Y14 GND (power), Y15 VCCO_4 (power)
part A text: BANK 0; BANK 6; BANK 2; BANK 4
part B text: BANK 1; BANK 7; BANK 3; BANK 5

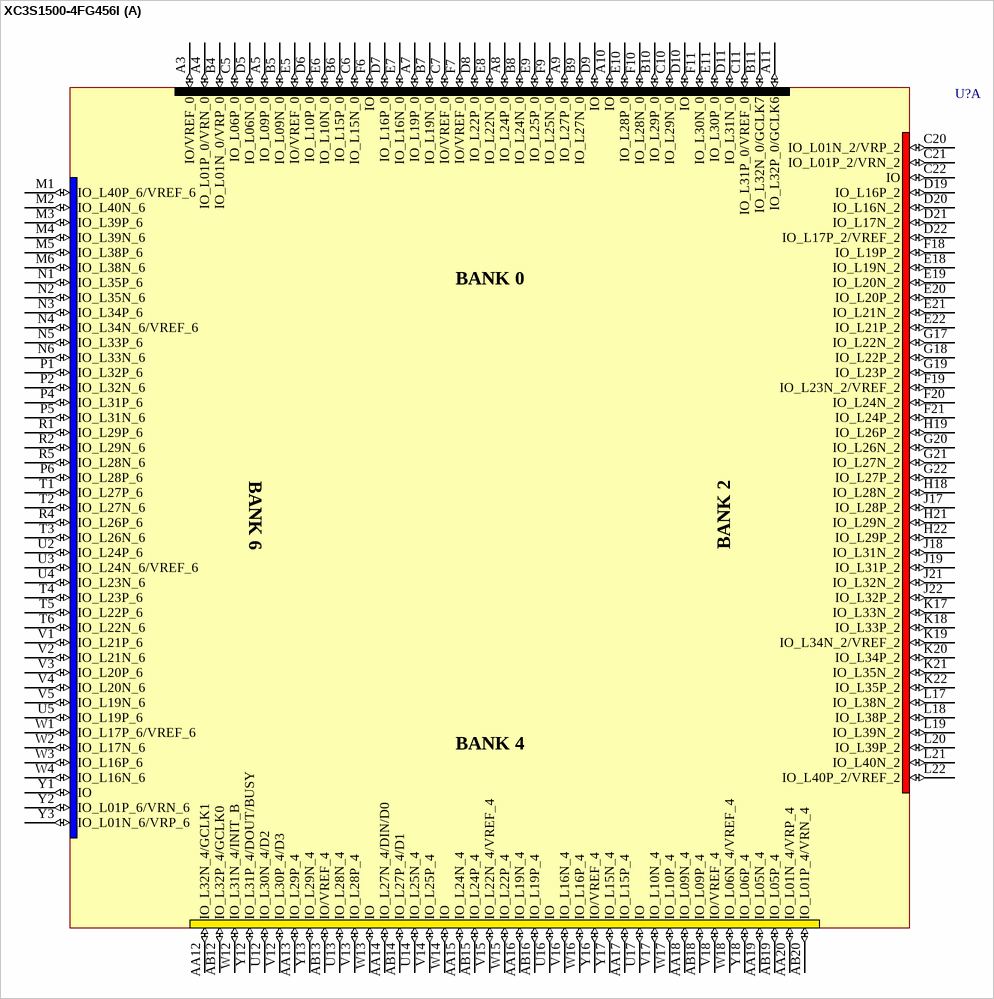
[diagram p64: symbol XC3S1500-4FG456I]

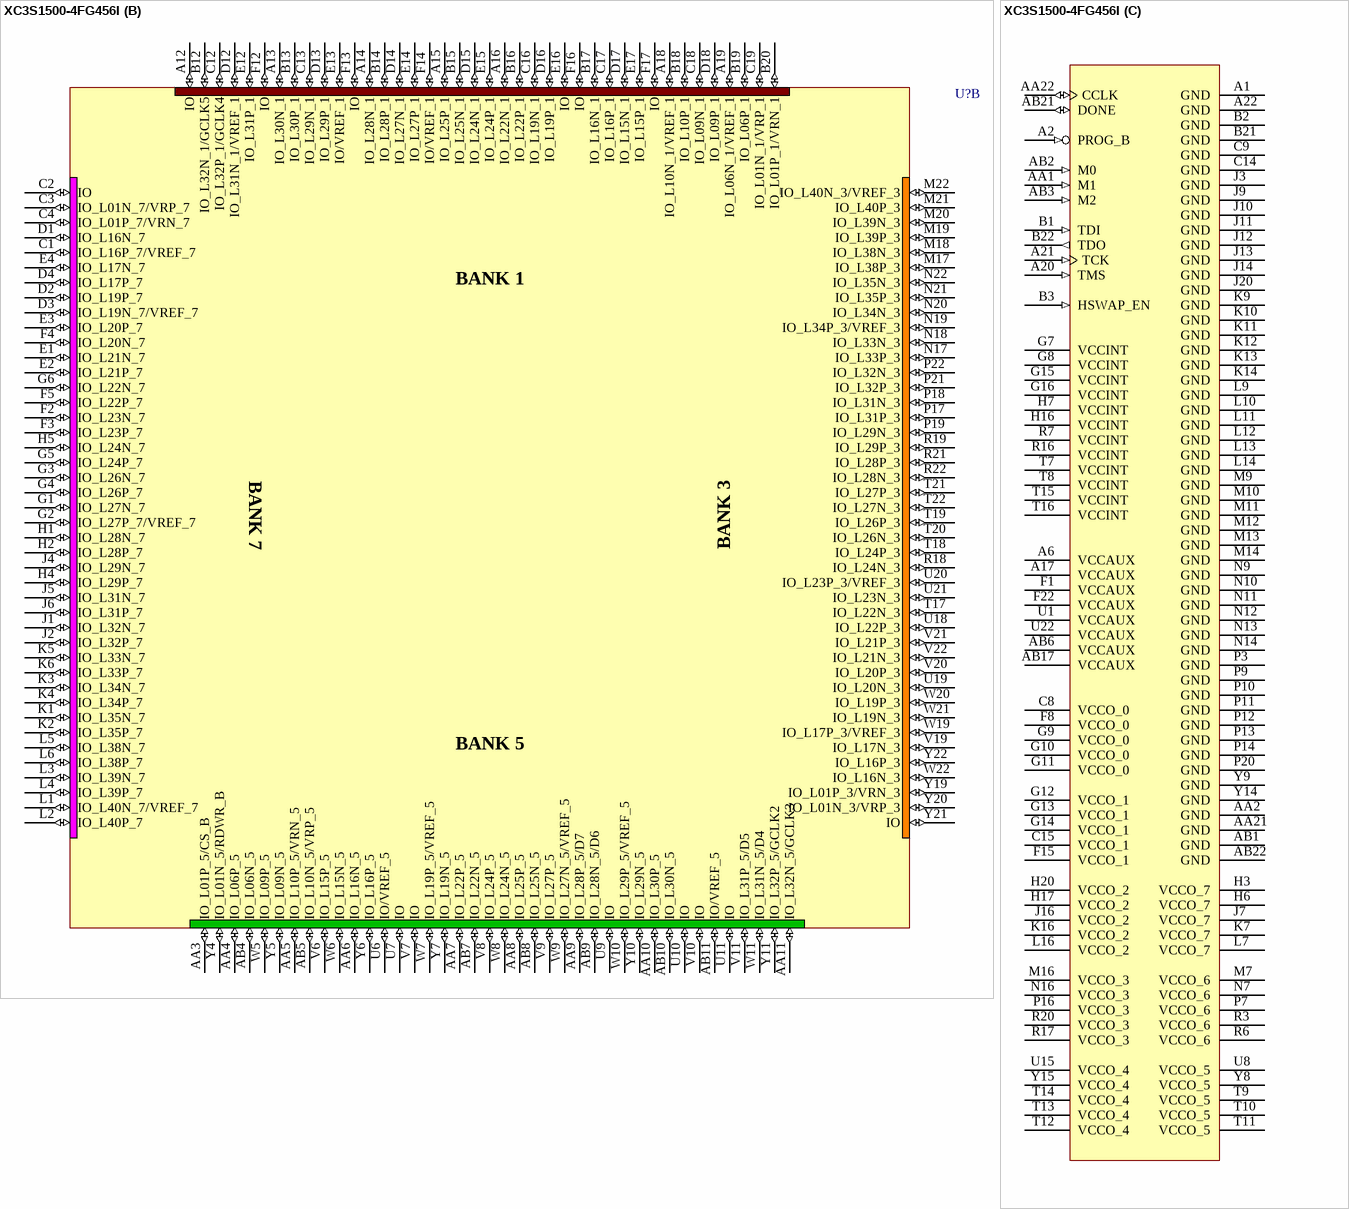
[diagram p65: symbol XC3S1500-4FG456I]

## XC3S1500-4FG456I
designator U?
Spartan-3 1.2V FPGA, 333 User I/Os, 456-ball FBGA, Standard Performance, Industrial Grade; PackageDocument: ver1.1, Apr-2001; Published: 17-Sep-2003; DatasheetDocument: 04-Mar-2004; PackageReference: FG456; Publisher: Altium Limited; Code_JEDEC: MO-151-AAJ-1
footprint FG456 (456-Ball Fine Pitch Ball Grid Array (FG456))
3D model XC3S1500-FG456 (456-Ball Fine Pitch Ball Grid Array (FG456))
signal-integrity model XC3S1500_FG456 (Spartan-3)
part A pins: A3 IO/VREF_0 (io), A4 IO_L01P_0/VRN_0 (io), A5 IO_L09P_0 (io), A7 IO_L19P_0 (io), A8 IO_L24P_0 (io), A9 IO_L27P_0 (io), A10 IO (io), A11 IO_L32P_0/GCLK6 (io), AA12 IO_L32N_4/GCLK1 (io), AA13 IO_L29P_4 (io), AA14 IO_L27N_4/DIN/D0 (io), AA15 IO_L24N_4 (io), AA16 IO_L19N_4 (io), AA17 IO_L15P_4 (io), AA18 IO_L09N_4 (io), AA19 IO_L05N_4 (io), AA20 IO_L01N_4/VRP_4 (io), AB12 IO_L32P_4/GCLK0 (io), AB13 IO/VREF_4 (io), AB14 IO_L27P_4/D1 (io), AB15 IO_L24P_4 (io), AB16 IO_L19P_4 (io), AB18 IO_L09P_4 (io), AB19 IO_L05P_4 (io), AB20 IO_L01P_4/VRN_4 (io), B4 IO_L01N_0/VRP_0 (io), B5 IO_L09N_0 (io), B6 IO_L15P_0 (io), B7 IO_L19N_0 (io), B8 IO_L24N_0 (io), B9 IO_L27N_0 (io), B10 IO_L29P_0 (io), B11 IO_L32N_0/GCLK7 (io), C5 IO_L06P_0 (io), C6 IO_L15N_0 (io), C7 IO/VREF_0 (io), C10 IO_L29N_0 (io), C11 IO_L31P_0/VREF_0 (io), C20 IO_L01N_2/VRP_2 (io), C21 IO_L01P_2/VRN_2 (io), C22 IO (io), D5 IO_L06N_0 (io), D6 IO_L10P_0 (io), D7 IO_L16P_0 (io), D8 IO_L22P_0 (io), D9 IO (io), D10 IO (io), D11 IO_L31N_0 (io), D19 IO_L16P_2 (io), D20 IO_L16N_2 (io), D21 IO_L17N_2 (io), D22 IO_L17P_2/VREF_2 (io), E5 IO/VREF_0 (io), E6 IO_L10N_0 (io), E7 IO_L16N_0 (io), E8 IO_L22N_0 (io), E9 IO_L25P_0 (io), E10 IO_L28P_0 (io), E11 IO_L30P_0 (io), E18 IO_L19N_2 (io), E19 IO_L20N_2 (io), E20 IO_L20P_2 (io), E21 IO_L21N_2 (io), E22 IO_L21P_2 (io), F6 IO (io), F7 IO/VREF_0 (io), F9 IO_L25N_0 (io), F10 IO_L28N_0 (io), F11 IO_L30N_0 (io), F18 IO_L19P_2 (io), F19 IO_L23N_2/VREF_2 (io), F20 IO_L24N_2 (io), F21 IO_L24P_2 (io), G17 IO_L22N_2 (io), G18 IO_L22P_2 (io), G19 IO_L23P_2 (io), G20 IO_L26N_2 (io), G21 IO_L27N_2 (io), G22 IO_L27P_2 (io), H18 IO_L28N_2 (io), H19 IO_L26P_2 (io), H21 IO_L29N_2 (io), H22 IO_L29P_2 (io), J17 IO_L28P_2 (io), J18 IO_L31N_2 (io), J19 IO_L31P_2 (io), J21 IO_L32N_2 (io), J22 IO_L32P_2 (io), K17 IO_L33N_2 (io), K18 IO_L33P_2 (io), K19 IO_L34N_2/VREF_2 (io), K20 IO_L34P_2 (io), K21 IO_L35N_2 (io), K22 IO_L35P_2 (io), L17 IO_L38N_2 (io), L18 IO_L38P_2 (io), L19 IO_L39N_2 (io), L20 IO_L39P_2 (io), L21 IO_L40N_2 (io), L22 IO_L40P_2/VREF_2 (io), M1 IO_L40P_6/VREF_6 (io), M2 IO_L40N_6 (io), M3 IO_L39P_6 (io), M4 IO_L39N_6 (io), M5 IO_L38P_6 (io), M6 IO_L38N_6 (io), N1 IO_L35P_6 (io), N2 IO_L35N_6 (io), N3 IO_L34P_6 (io), N4 IO_L34N_6/VREF_6 (io), N5 IO_L33P_6 (io), N6 IO_L33N_6 (io), P1 IO_L32P_6 (io), P2 IO_L32N_6 (io), P4 IO_L31P_6 (io), P5 IO_L31N_6 (io), P6 IO_L28P_6 (io), R1 IO_L29P_6 (io), R2 IO_L29N_6 (io), R4 IO_L26P_6 (io), R5 IO_L28N_6 (io), T1 IO_L27P_6 (io), T2 IO_L27N_6 (io), T3 IO_L26N_6 (io), T4 IO_L23P_6 (io), T5 IO_L22P_6 (io), T6 IO_L22N_6 (io), U2 IO_L24P_6 (io), U3 IO_L24N_6/VREF_6 (io), U4 IO_L23N_6 (io), U5 IO_L19P_6 (io), U12 IO_L30N_4/D2 (io), U13 IO_L28N_4 (io), U14 IO_L25N_4 (io), U16 IO (io), U17 IO (io), V1 IO_L21P_6 (io), V2 IO_L21N_6 (io), V3 IO_L20P_6 (io), V4 IO_L20N_6 (io), V5 IO_L19N_6 (io), V12 IO_L30P_4/D3 (io), V13 IO_L28P_4 (io), V14 IO_L25P_4 (io), V15 IO_L22N_4/VREF_4 (io), V16 IO_L16N_4 (io), V17 IO_L10N_4 (io), V18 IO/VREF_4 (io), W1 IO_L17P_6/VREF_6 (io), W2 IO_L17N_6 (io), W3 IO_L16P_6 (io), W4 IO_L16N_6 (io), W12 IO_L31N_4/INIT_B (io), W13 IO (io), W14 IO (io), W15 IO_L22P_4 (io), W16 IO_L16P_4 (io), W17 IO_L10P_4 (io), W18 IO_L06N_4/VREF_4 (io), Y1 IO (io), Y2 IO_L01P_6/VRN_6 (io), Y3 IO_L01N_6/VRP_6 (io), Y12 IO_L31P_4/DOUT/BUSY (io), Y13 IO_L29N_4 (io), Y16 IO/VREF_4 (io), Y17 IO_L15N_4 (io), Y18 IO_L06P_4 (io)
part B pins: A12 IO (io), A13 IO_L30N_1 (io), A14 IO_L28N_1 (io), A15 IO_L25P_1 (io), A16 IO_L22N_1 (io), A18 IO_L10N_1/VREF_1 (io), A19 IO_L06N_1/VREF_1 (io), AA3 IO_L01P_5/CS_B (io), AA4 IO_L06P_5 (io), AA5 IO_L10P_5/VRN_5 (io), AA6 IO_L16N_5 (io), AA7 IO_L22P_5 (io), AA8 IO_L25P_5 (io), AA9 IO_L28P_5/D7 (io), AA10 IO_L30P_5 (io), AA11 IO_L32N_5/GCLK3 (io), AB4 IO_L06N_5 (io), AB5 IO_L10N_5/VRP_5 (io), AB7 IO_L22N_5 (io), AB8 IO_L25N_5 (io), AB9 IO_L28N_5/D6 (io), AB10 IO_L30N_5 (io), AB11 IO/VREF_5 (io), B12 IO_L32N_1/GCLK5 (io), B13 IO_L30P_1 (io), B14 IO_L28P_1 (io), B15 IO_L25N_1 (io), B16 IO_L22P_1 (io), B17 IO_L16N_1 (io), B18 IO_L10P_1 (io), B19 IO_L06P_1 (io), B20 IO_L01P_1/VRN_1 (io), C1 IO_L16P_7/VREF_7 (io), C2 IO (io), C3 IO_L01N_7/VRP_7 (io), C4 IO_L01P_7/VRN_7 (io), C12 IO_L32P_1/GCLK4 (io), C13 IO_L29N_1 (io), C16 IO_L19N_1 (io), C17 IO_L16P_1 (io), C18 IO_L09N_1 (io), C19 IO_L01N_1/VRP_1 (io), D1 IO_L16N_7 (io), D2 IO_L19P_7 (io), D3 IO_L19N_7/VREF_7 (io), D4 IO_L17P_7 (io), D12 IO_L31N_1/VREF_1 (io), D13 IO_L29P_1 (io), D14 IO_L27N_1 (io), D15 IO_L24N_1 (io), D16 IO_L19P_1 (io), D17 IO_L15N_1 (io), D18 IO_L09P_1 (io), E1 IO_L21N_7 (io), E2 IO_L21P_7 (io), E3 IO_L20P_7 (io), E4 IO_L17N_7 (io), E12 IO_L31P_1 (io), E13 IO/VREF_1 (io), E14 IO_L27P_1 (io), E15 IO_L24P_1 (io), E16 IO (io), E17 IO_L15P_1 (io), F2 IO_L23N_7 (io), F3 IO_L23P_7 (io), F4 IO_L20N_7 (io), F5 IO_L22P_7 (io), F12 IO (io), F13 IO (io), F14 IO/VREF_1 (io), F16 IO (io), F17 IO (io), G1 IO_L27N_7 (io), G2 IO_L27P_7/VREF_7 (io), G3 IO_L26N_7 (io), G4 IO_L26P_7 (io), G5 IO_L24P_7 (io), G6 IO_L22N_7 (io), H1 IO_L28N_7 (io), H2 IO_L28P_7 (io), H4 IO_L29P_7 (io), H5 IO_L24N_7 (io), J1 IO_L32N_7 (io), J2 IO_L32P_7 (io), J4 IO_L29N_7 (io), J5 IO_L31N_7 (io), J6 IO_L31P_7 (io), K1 IO_L35N_7 (io), K2 IO_L35P_7 (io), K3 IO_L34N_7 (io), K4 IO_L34P_7 (io), K5 IO_L33N_7 (io), K6 IO_L33P_7 (io), L1 IO_L40N_7/VREF_7 (io), L2 IO_L40P_7 (io), L3 IO_L39N_7 (io), L4 IO_L39P_7 (io), L5 IO_L38N_7 (io), L6 IO_L38P_7 (io), M17 IO_L38P_3 (io), M18 IO_L38N_3 (io), M19 IO_L39P_3 (io), M20 IO_L39N_3 (io), M21 IO_L40P_3 (io), M22 IO_L40N_3/VREF_3 (io), N17 IO_L33P_3 (io), N18 IO_L33N_3 (io), N19 IO_L34P_3/VREF_3 (io), N20 IO_L34N_3 (io), N21 IO_L35P_3 (io), N22 IO_L35N_3 (io), P17 IO_L31P_3 (io), P18 IO_L31N_3 (io), P19 IO_L29N_3 (io), P21 IO_L32P_3 (io), P22 IO_L32N_3 (io), R18 IO_L24N_3 (io), R19 IO_L29P_3 (io), R21 IO_L28P_3 (io), R22 IO_L28N_3 (io), T17 IO_L22N_3 (io), T18 IO_L24P_3 (io), T19 IO_L26P_3 (io), T20 IO_L26N_3 (io), T21 IO_L27P_3 (io), T22 IO_L27N_3 (io), U6 IO/VREF_5 (io), U7 IO (io), U9 IO (io), U10 IO (io), U11 IO (io), U18 IO_L22P_3 (io), U19 IO_L20N_3 (io), U20 IO_L23P_3/VREF_3 (io), U21 IO_L23N_3 (io), V6 IO_L15P_5 (io), V7 IO (io), V8 IO_L24P_5 (io), V9 IO_L27P_5 (io), V10 IO (io), V11 IO_L31P_5/D5 (io), V19 IO_L17N_3 (io), V20 IO_L20P_3 (io), V21 IO_L21P_3 (io), V22 IO_L21N_3 (io), W5 IO_L09P_5 (io), W6 IO_L15N_5 (io), W7 IO_L19P_5/VREF_5 (io), W8 IO_L24N_5 (io), W9 IO_L27N_5/VREF_5 (io), W10 IO_L29P_5/VREF_5 (io), W11 IO_L31N_5/D4 (io), W19 IO_L17P_3/VREF_3 (io), W20 IO_L19P_3 (io), W21 IO_L19N_3 (io), W22 IO_L16N_3 (io), Y4 IO_L01N_5/RDWR_B (io), Y5 IO_L09N_5 (io), Y6 IO_L16P_5 (io), Y7 IO_L19N_5 (io), Y10 IO_L29N_5 (io), Y11 IO_L32P_5/GCLK2 (io), Y19 IO_L01P_3/VRN_3 (io), Y20 IO_L01N_3/VRP_3 (io), Y21 IO (io), Y22 IO_L16P_3 (io)
part C pins: A1 GND (power), A2 PROG_B (in), A6 VCCAUX (power), A17 VCCAUX (power), A20 TMS (in), A21 TCK (in), A22 GND (power), AA1 M1 (in), AA2 GND (power), AA21 GND (power), AA22 CCLK (io), AB1 GND (power), AB2 M0 (in), AB3 M2 (in), AB6 VCCAUX (power), AB17 VCCAUX (power), AB21 DONE (io), AB22 GND (power), B1 TDI (in), B2 GND (power), B3 HSWAP_EN (in), B21 GND (power), B22 TDO (out), C8 VCCO_0 (power), C9 GND (power), C14 GND (power), C15 VCCO_1 (power), F1 VCCAUX (power), F8 VCCO_0 (power), F15 VCCO_1 (power), F22 VCCAUX (power), G7 VCCINT (power), G8 VCCINT (power), G9 VCCO_0 (power), G10 VCCO_0 (power), G11 VCCO_0 (power), G12 VCCO_1 (power), G13 VCCO_1 (power), G14 VCCO_1 (power), G15 VCCINT (power), G16 VCCINT (power), H3 VCCO_7 (power), H6 VCCO_7 (power), H7 VCCINT (power), H16 VCCINT (power), H17 VCCO_2 (power), H20 VCCO_2 (power), J3 GND (power), J7 VCCO_7 (power), J9 GND (power), J10 GND (power), J11 GND (power), J12 GND (power), J13 GND (power), J14 GND (power), J16 VCCO_2 (power), J20 GND (power), K7 VCCO_7 (power), K9 GND (power), K10 GND (power), K11 GND (power), K12 GND (power), K13 GND (power), K14 GND (power), K16 VCCO_2 (power), L7 VCCO_7 (power), L9 GND (power), L10 GND (power), L11 GND (power), L12 GND (power), L13 GND (power), L14 GND (power), L16 VCCO_2 (power), M7 VCCO_6 (power), M9 GND (power), M10 GND (power), M11 GND (power), M12 GND (power), M13 GND (power), M14 GND (power), M16 VCCO_3 (power), N7 VCCO_6 (power), N9 GND (power), N10 GND (power), N11 GND (power), N12 GND (power), N13 GND (power), N14 GND (power), N16 VCCO_3 (power), P3 GND (power), P7 VCCO_6 (power), P9 GND (power), P10 GND (power), P11 GND (power), P12 GND (power), P13 GND (power), P14 GND (power), P16 VCCO_3 (power), P20 GND (power), R3 VCCO_6 (power), R6 VCCO_6 (power), R7 VCCINT (power), R16 VCCINT (power), R17 VCCO_3 (power), R20 VCCO_3 (power), T7 VCCINT (power), T8 VCCINT (power), T9 VCCO_5 (power), T10 VCCO_5 (power), T11 VCCO_5 (power), T12 VCCO_4 (power), T13 VCCO_4 (power), T14 VCCO_4 (power), T15 VCCINT (power), T16 VCCINT (power), U1 VCCAUX (power), U8 VCCO_5 (power), U15 VCCO_4 (power), U22 VCCAUX (power), Y8 VCCO_5 (power), Y9 GND (power), Y14 GND (power), Y15 VCCO_4 (power)
part A text: BANK 0; BANK 6; BANK 2; BANK 4
part B text: BANK 1; BANK 7; BANK 3; BANK 5

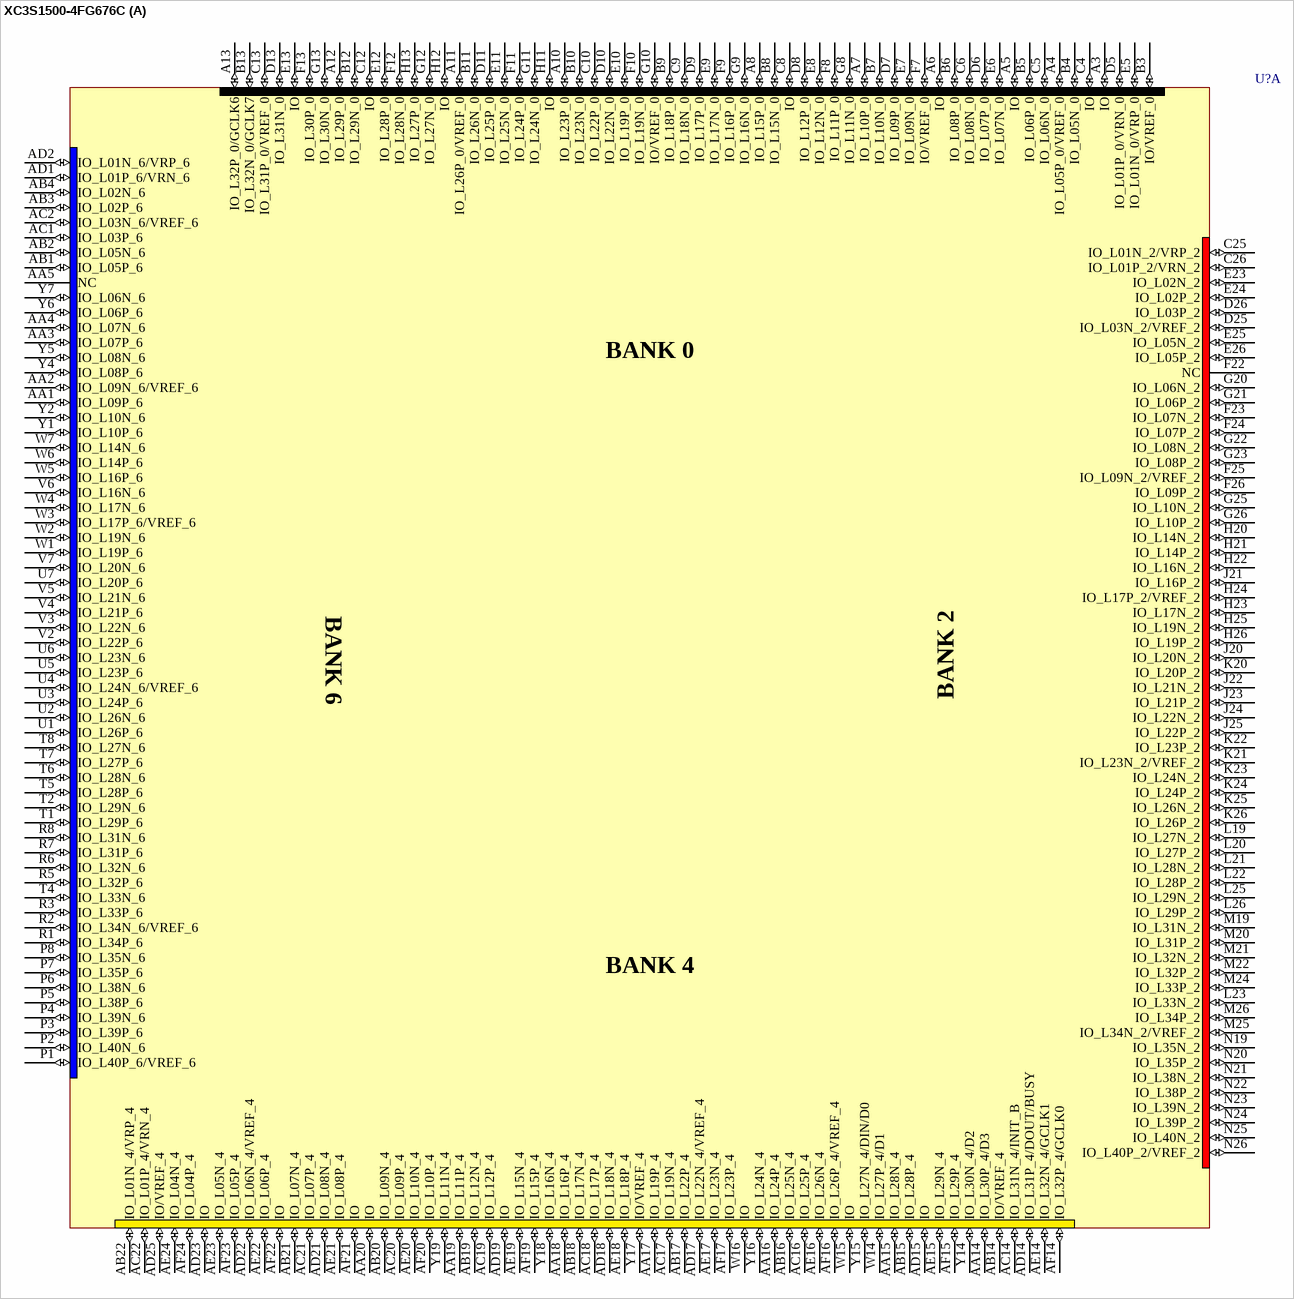
[diagram p66: symbol XC3S1500-4FG676C]

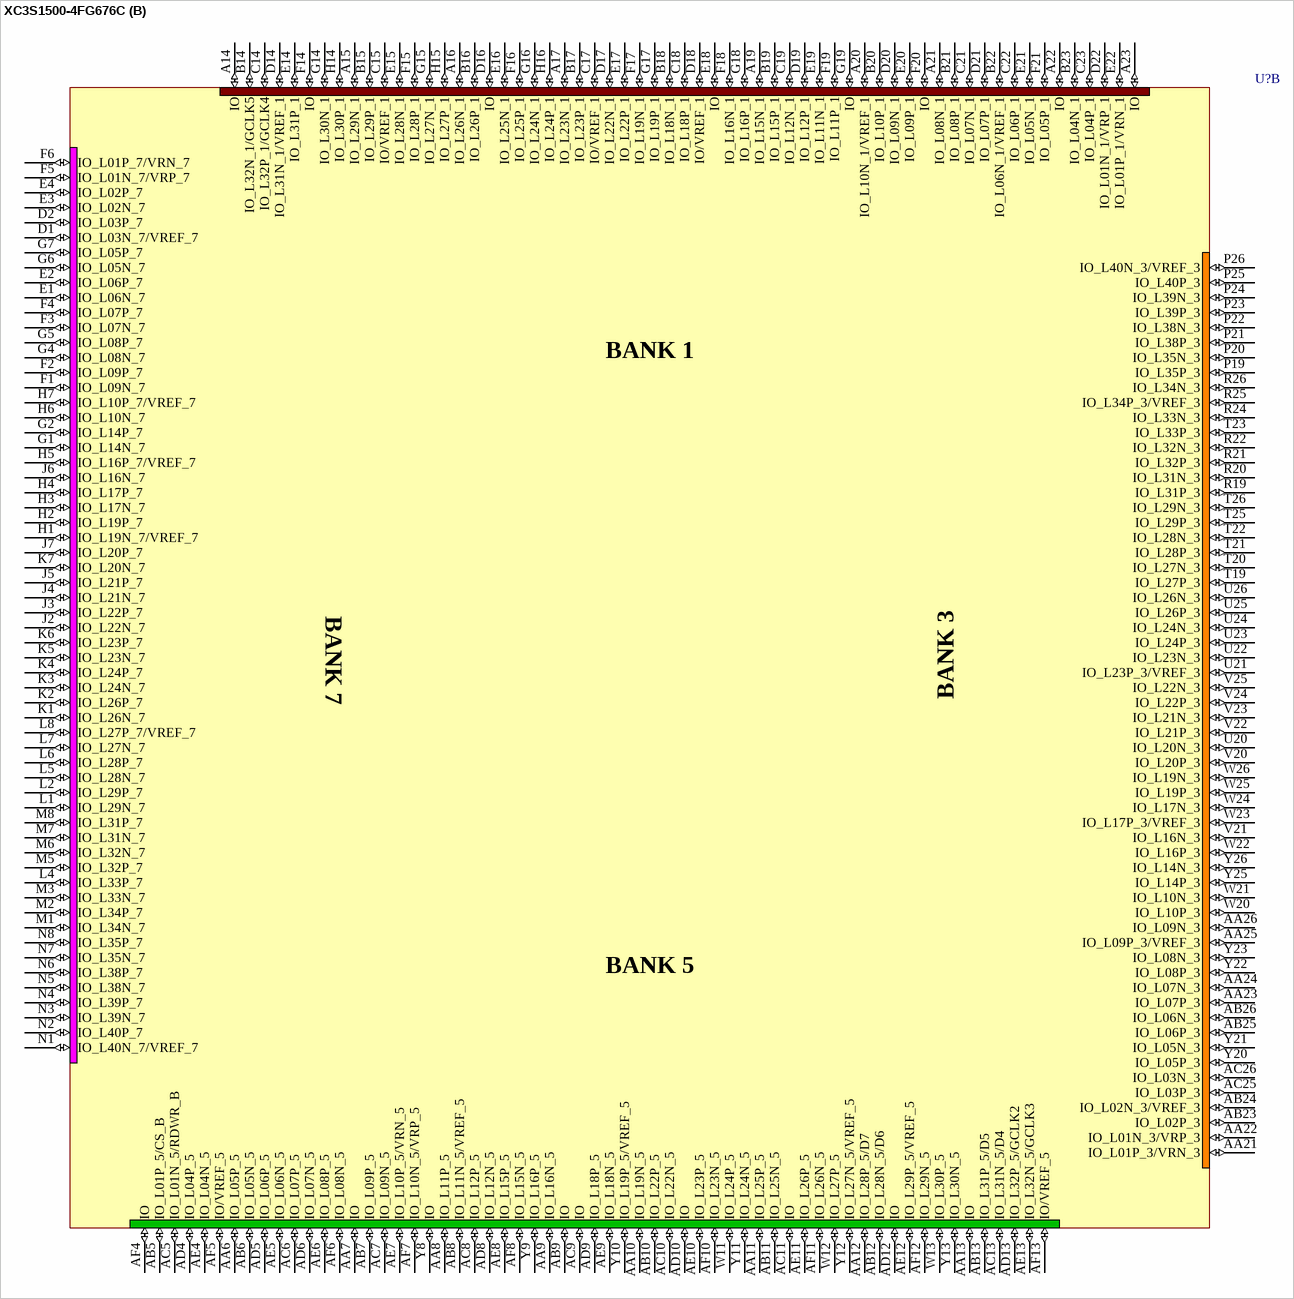
[diagram p67: symbol XC3S1500-4FG676C]

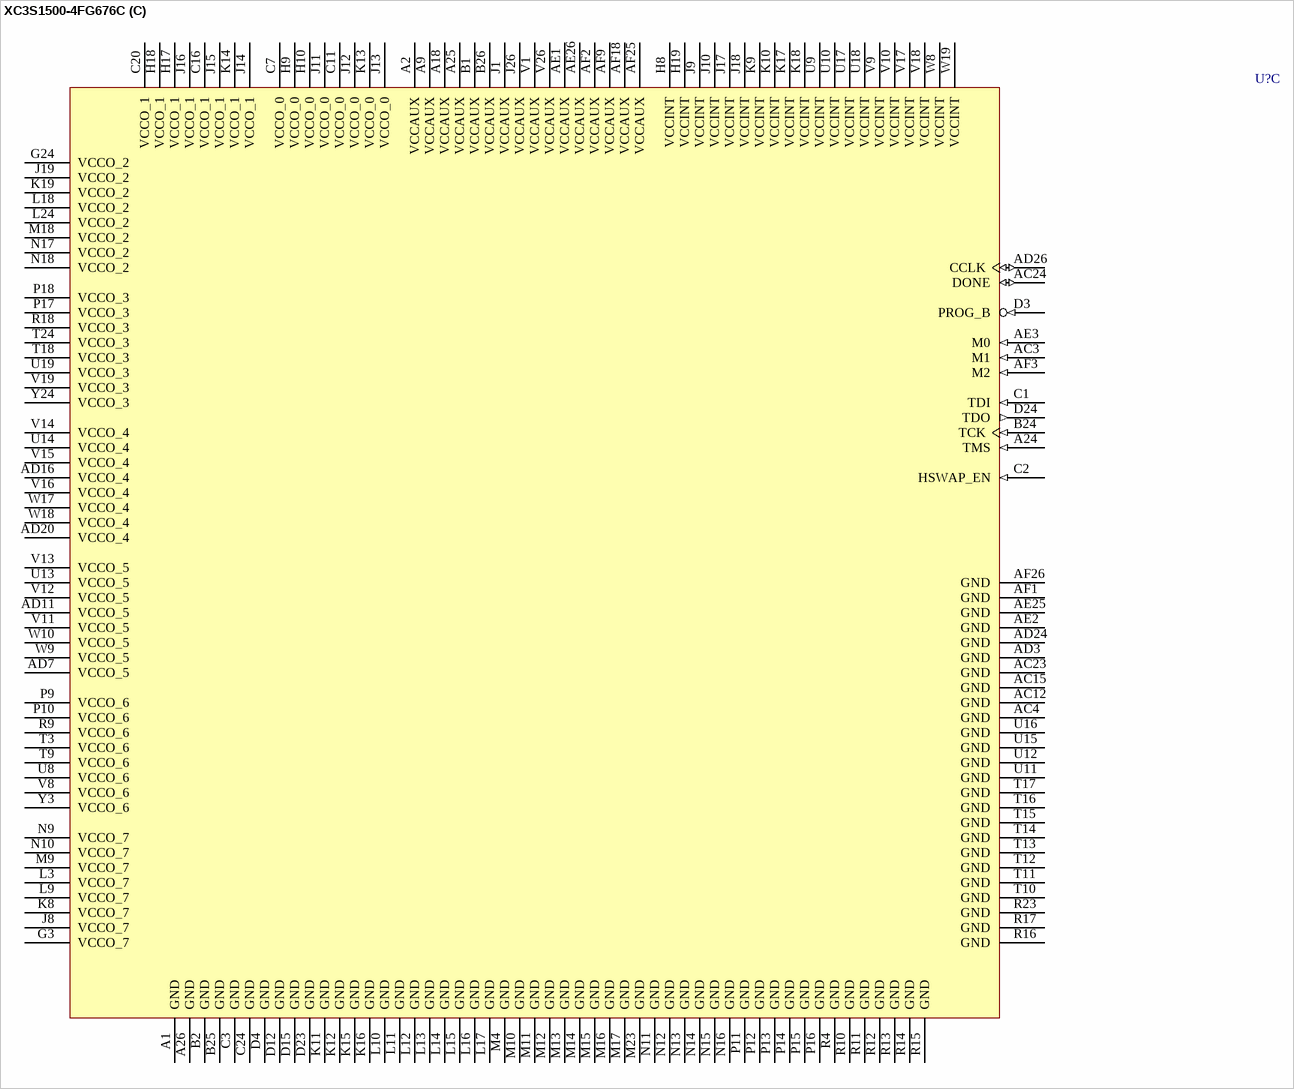
[diagram p68: symbol XC3S1500-4FG676C]

## XC3S1500-4FG676C
designator U?
Spartan-3 1.2V FPGA, 487 User I/Os, 676-ball FBGA, Standard Performance, Commercial Grade; PackageDocument: ver1.1, Apr-2001; Published: 17-Sep-2003; DatasheetDocument: 04-Mar-2004; PackageReference: FG676; Publisher: Altium Limited; Code_JEDEC: MS-034-AAL-1; Code_IPC: PBGA 27X27 FE676
footprint FG676 (676-Ball Fine Pitch Ball Grid Array (FG676))
3D model XC3S1500-FG676 (676-Ball Fine Pitch Ball Grid Array (FG676))
signal-integrity model XC3S1500_FG676 (Spartan-3)
part A pins: A3 IO (io), A4 IO_L05P_0/VREF_0 (io), A5 IO (io), A6 IO (io), A7 IO_L10P_0 (io), A8 IO_L15P_0 (io), A10 IO_L23P_0 (io), A11 IO_L26P_0/VREF_0 (io), A12 IO_L29P_0 (io), A13 IO_L32P_0/GCLK6 (io), AA1 IO_L09P_6 (io), AA2 IO_L09N_6/VREF_6 (io), AA3 IO_L07P_6 (io), AA4 IO_L07N_6 (io), AA5 NC, AA14 IO_L30P_4/D3 (io), AA15 IO_L28N_4 (io), AA16 IO_L24P_4 (io), AA17 IO_L19P_4 (io), AA18 IO_L16P_4 (io), AA19 IO_L11P_4 (io), AA20 IO (io), AB1 IO_L05P_6 (io), AB2 IO_L05N_6 (io), AB3 IO_L02P_6 (io), AB4 IO_L02N_6 (io), AB14 IO/VREF_4 (io), AB15 IO_L28P_4 (io), AB16 IO_L25N_4 (io), AB17 IO_L22P_4 (io), AB18 IO_L17N_4 (io), AB19 IO_L12N_4 (io), AB20 IO_L09N_4 (io), AB21 IO_L07N_4 (io), AB22 IO_L01N_4/VRP_4 (io), AC1 IO_L03P_6 (io), AC2 IO_L03N_6/VREF_6 (io), AC14 IO_L31N_4/INIT_B (io), AC16 IO_L25P_4 (io), AC17 IO_L19N_4 (io), AC18 IO_L17P_4 (io), AC19 IO_L12P_4 (io), AC20 IO_L09P_4 (io), AC21 IO_L07P_4 (io), AC22 IO_L01P_4/VRN_4 (io), AD1 IO_L01P_6/VRN_6 (io), AD2 IO_L01N_6/VRP_6 (io), AD14 IO_L31P_4/DOUT/BUSY (io), AD15 IO (io), AD17 IO_L22N_4/VREF_4 (io), AD18 IO_L18N_4 (io), AD19 IO (io), AD21 IO_L08N_4 (io), AD22 IO_L06N_4/VREF_4 (io), AD23 IO (io), AD25 IO/VREF_4 (io), AE14 IO_L32N_4/GCLK1 (io), AE15 IO_L29N_4 (io), AE16 IO_L26N_4 (io), AE17 IO_L23N_4 (io), AE18 IO_L18P_4 (io), AE19 IO_L15N_4 (io), AE20 IO_L10N_4 (io), AE21 IO_L08P_4 (io), AE22 IO_L06P_4 (io), AE23 IO_L05N_4 (io), AE24 IO_L04N_4 (io), AF14 IO_L32P_4/GCLK0 (io), AF15 IO_L29P_4 (io), AF16 IO_L26P_4/VREF_4 (io), AF17 IO_L23P_4 (io), AF19 IO_L15P_4 (io), AF20 IO_L10P_4 (io), AF21 IO (io), AF22 IO (io), AF23 IO_L05P_4 (io), AF24 IO_L04P_4 (io), B3 IO/VREF_0 (io), B4 IO_L05N_0 (io), B5 IO_L06P_0 (io), B6 IO_L08P_0 (io), B7 IO_L10N_0 (io), B8 IO_L15N_0 (io), B9 IO_L18P_0 (io), B10 IO_L23N_0 (io), B11 IO_L26N_0 (io), B12 IO_L29N_0 (io), B13 IO_L32N_0/GCLK7 (io), C4 IO (io), C5 IO_L06N_0 (io), C6 IO_L08N_0 (io), C8 IO (io), C9 IO_L18N_0 (io), C10 IO_L22P_0 (io), C12 IO (io), C13 IO_L31P_0/VREF_0 (io), C25 IO_L01N_2/VRP_2 (io), C26 IO_L01P_2/VRN_2 (io), D5 IO_L01P_0/VRN_0 (io), D6 IO_L07P_0 (io), D7 IO_L09P_0 (io), D8 IO_L12P_0 (io), D9 IO_L17P_0 (io), D10 IO_L22N_0 (io), D11 IO_L25P_0 (io), D13 IO_L31N_0 (io), D25 IO_L03N_2/VREF_2 (io), D26 IO_L03P_2 (io), E5 IO_L01N_0/VRP_0 (io), E6 IO_L07N_0 (io), E7 IO_L09N_0 (io), E8 IO_L12N_0 (io), E9 IO_L17N_0 (io), E10 IO_L19P_0 (io), E11 IO_L25N_0 (io), E12 IO_L28P_0 (io), E13 IO (io), E23 IO_L02N_2 (io), E24 IO_L02P_2 (io), E25 IO_L05N_2 (io), E26 IO_L05P_2 (io), F7 IO/VREF_0 (io), F8 IO_L11P_0 (io), F9 IO_L16P_0 (io), F10 IO_L19N_0 (io), F11 IO_L24P_0 (io), F12 IO_L28N_0 (io), F13 IO_L30P_0 (io), F22 NC, F23 IO_L07N_2 (io), F24 IO_L07P_2 (io), F25 IO_L09N_2/VREF_2 (io), F26 IO_L09P_2 (io), G8 IO_L11N_0 (io), G9 IO_L16N_0 (io), G10 IO/VREF_0 (io), G11 IO_L24N_0 (io), G12 IO_L27N_0 (io), G13 IO_L30N_0 (io), G20 IO_L06N_2 (io), G21 IO_L06P_2 (io), G22 IO_L08N_2 (io), G23 IO_L08P_2 (io), G25 IO_L10N_2 (io), G26 IO_L10P_2 (io), H11 IO (io), H12 IO (io), H13 IO_L27P_0 (io), H20 IO_L14N_2 (io), H21 IO_L14P_2 (io), H22 IO_L16N_2 (io), H23 IO_L17N_2 (io), H24 IO_L17P_2/VREF_2 (io), H25 IO_L19N_2 (io), H26 IO_L19P_2 (io), J20 IO_L20N_2 (io), J21 IO_L16P_2 (io), J22 IO_L21N_2 (io), J23 IO_L21P_2 (io), J24 IO_L22N_2 (io), J25 IO_L22P_2 (io), K20 IO_L20P_2 (io), K21 IO_L23N_2/VREF_2 (io), K22 IO_L23P_2 (io), K23 IO_L24N_2 (io), K24 IO_L24P_2 (io), K25 IO_L26N_2 (io), K26 IO_L26P_2 (io), L19 IO_L27N_2 (io), L20 IO_L27P_2 (io), L21 IO_L28N_2 (io), L22 IO_L28P_2 (io), L23 IO_L33N_2 (io), L25 IO_L29N_2 (io), L26 IO_L29P_2 (io), M19 IO_L31N_2 (io), M20 IO_L31P_2 (io), M21 IO_L32N_2 (io), M22 IO_L32P_2 (io), M24 IO_L33P_2 (io), M25 IO_L34N_2/VREF_2 (io), M26 IO_L34P_2 (io), N19 IO_L35N_2 (io), N20 IO_L35P_2 (io), N21 IO_L38N_2 (io), N22 IO_L38P_2 (io), N23 IO_L39N_2 (io), N24 IO_L39P_2 (io), N25 IO_L40N_2 (io), N26 IO_L40P_2/VREF_2 (io), P1 IO_L40P_6/VREF_6 (io), P2 IO_L40N_6 (io), P3 IO_L39P_6 (io), P4 IO_L39N_6 (io), P5 IO_L38P_6 (io), P6 IO_L38N_6 (io), P7 IO_L35P_6 (io), P8 IO_L35N_6 (io), R1 IO_L34P_6 (io), R2 IO_L34N_6/VREF_6 (io), R3 IO_L33P_6 (io), R5 IO_L32P_6 (io), R6 IO_L32N_6 (io), R7 IO_L31P_6 (io), R8 IO_L31N_6 (io), T1 IO_L29P_6 (io), T2 IO_L29N_6 (io), T4 IO_L33N_6 (io), T5 IO_L28P_6 (io), T6 IO_L28N_6 (io), T7 IO_L27P_6 (io), T8 IO_L27N_6 (io), U1 IO_L26P_6 (io), U2 IO_L26N_6 (io), U3 IO_L24P_6 (io), U4 IO_L24N_6/VREF_6 (io), U5 IO_L23P_6 (io), U6 IO_L23N_6 (io), U7 IO_L20P_6 (io), V2 IO_L22P_6 (io), V3 IO_L22N_6 (io), V4 IO_L21P_6 (io), V5 IO_L21N_6 (io), V6 IO_L16N_6 (io), V7 IO_L20N_6 (io), W1 IO_L19P_6 (io), W2 IO_L19N_6 (io), W3 IO_L17P_6/VREF_6 (io), W4 IO_L17N_6 (io), W5 IO_L16P_6 (io), W6 IO_L14P_6 (io), W7 IO_L14N_6 (io), W14 IO_L27P_4/D1 (io), W15 IO (io), W16 IO (io), Y1 IO_L10P_6 (io), Y2 IO_L10N_6 (io), Y4 IO_L08P_6 (io), Y5 IO_L08N_6 (io), Y6 IO_L06P_6 (io), Y7 IO_L06N_6 (io), Y14 IO_L30N_4/D2 (io), Y15 IO_L27N_4/DIN/D0 (io), Y16 IO_L24N_4 (io), Y17 IO/VREF_4 (io), Y18 IO_L16N_4 (io), Y19 IO_L11N_4 (io)
part B pins: A14 IO (io), A15 IO_L29N_1 (io), A16 IO_L26N_1 (io), A17 IO_L23N_1 (io), A19 IO_L15N_1 (io), A20 IO_L10N_1/VREF_1 (io), A21 IO_L08N_1 (io), A22 IO (io), A23 IO (io), AA6 IO_L05P_5 (io), AA7 IO (io), AA8 IO_L11P_5 (io), AA9 IO_L16N_5 (io), AA10 IO_L19N_5 (io), AA11 IO_L25P_5 (io), AA12 IO_L28P_5/D7 (io), AA13 IO (io), AA21 IO_L01P_3/VRN_3 (io), AA22 IO_L01N_3/VRP_3 (io), AA23 IO_L07P_3 (io), AA24 IO_L07N_3 (io), AA25 IO_L09P_3/VREF_3 (io), AA26 IO_L09N_3 (io), AB5 IO_L01P_5/CS_B (io), AB6 IO_L05N_5 (io), AB7 IO_L09P_5 (io), AB8 IO_L11N_5/VREF_5 (io), AB9 IO (io), AB10 IO_L22P_5 (io), AB11 IO_L25N_5 (io), AB12 IO_L28N_5/D6 (io), AB13 IO_L31P_5/D5 (io), AB23 IO_L02P_3 (io), AB24 IO_L02N_3/VREF_3 (io), AB25 IO_L06P_3 (io), AB26 IO_L06N_3 (io), AC5 IO_L01N_5/RDWR_B (io), AC6 IO_L07P_5 (io), AC7 IO_L09N_5 (io), AC8 IO_L12P_5 (io), AC9 IO (io), AC10 IO_L22N_5 (io), AC11 IO (io), AC13 IO_L31N_5/D4 (io), AC25 IO_L03P_3 (io), AC26 IO_L03N_3 (io), AD4 IO_L04P_5 (io), AD5 IO_L06P_5 (io), AD6 IO_L07N_5 (io), AD8 IO_L12N_5 (io), AD9 IO_L18P_5 (io), AD10 IO (io), AD12 IO (io), AD13 IO_L32P_5/GCLK2 (io), AE4 IO_L04N_5 (io), AE5 IO_L06N_5 (io), AE6 IO_L08P_5 (io), AE7 IO_L10P_5/VRN_5 (io), AE8 IO_L15P_5 (io), AE9 IO_L18N_5 (io), AE10 IO_L23P_5 (io), AE11 IO_L26P_5 (io), AE12 IO_L29P_5/VREF_5 (io), AE13 IO_L32N_5/GCLK3 (io), AF4 IO (io), AF5 IO/VREF_5 (io), AF6 IO_L08N_5 (io), AF7 IO_L10N_5/VRP_5 (io), AF8 IO_L15N_5 (io), AF10 IO_L23N_5 (io), AF11 IO_L26N_5 (io), AF12 IO_L29N_5 (io), AF13 IO/VREF_5 (io), B14 IO_L32N_1/GCLK5 (io), B15 IO_L29P_1 (io), B16 IO_L26P_1 (io), B17 IO_L23P_1 (io), B18 IO_L18N_1 (io), B19 IO_L15P_1 (io), B20 IO_L10P_1 (io), B21 IO_L08P_1 (io), B22 IO_L06N_1/VREF_1 (io), B23 IO_L04N_1 (io), C14 IO_L32P_1/GCLK4 (io), C15 IO/VREF_1 (io), C17 IO/VREF_1 (io), C18 IO_L18P_1 (io), C19 IO_L12N_1 (io), C21 IO_L07N_1 (io), C22 IO_L06P_1 (io), C23 IO_L04P_1 (io), D1 IO_L03N_7/VREF_7 (io), D2 IO_L03P_7 (io), D14 IO_L31N_1/VREF_1 (io), D16 IO (io), D17 IO_L22N_1 (io), D18 IO/VREF_1 (io), D19 IO_L12P_1 (io), D20 IO_L09N_1 (io), D21 IO_L07P_1 (io), D22 IO_L01N_1/VRP_1 (io), E1 IO_L06N_7 (io), E2 IO_L06P_7 (io), E3 IO_L02N_7 (io), E4 IO_L02P_7 (io), E14 IO_L31P_1 (io), E15 IO_L28N_1 (io), E16 IO_L25N_1 (io), E17 IO_L22P_1 (io), E18 IO (io), E19 IO_L11N_1 (io), E20 IO_L09P_1 (io), E21 IO_L05N_1 (io), E22 IO_L01P_1/VRN_1 (io), F1 IO_L09N_7 (io), F2 IO_L09P_7 (io), F3 IO_L07N_7 (io), F4 IO_L07P_7 (io), F5 IO_L01N_7/VRP_7 (io), F6 IO_L01P_7/VRN_7 (io), F14 IO (io), F15 IO_L28P_1 (io), F16 IO_L25P_1 (io), F17 IO_L19N_1 (io), F18 IO_L16N_1 (io), F19 IO_L11P_1 (io), F20 IO (io), F21 IO_L05P_1 (io), G1 IO_L14N_7 (io), G2 IO_L14P_7 (io), G4 IO_L08N_7 (io), G5 IO_L08P_7 (io), G6 IO_L05N_7 (io), G7 IO_L05P_7 (io), G14 IO_L30N_1 (io), G15 IO_L27N_1 (io), G16 IO_L24N_1 (io), G17 IO_L19P_1 (io), G18 IO_L16P_1 (io), G19 IO (io), H1 IO_L19N_7/VREF_7 (io), H2 IO_L19P_7 (io), H3 IO_L17N_7 (io), H4 IO_L17P_7 (io), H5 IO_L16P_7/VREF_7 (io), H6 IO_L10N_7 (io), H7 IO_L10P_7/VREF_7 (io), H14 IO_L30P_1 (io), H15 IO_L27P_1 (io), H16 IO_L24P_1 (io), J2 IO_L22N_7 (io), J3 IO_L22P_7 (io), J4 IO_L21N_7 (io), J5 IO_L21P_7 (io), J6 IO_L16N_7 (io), J7 IO_L20P_7 (io), K1 IO_L26N_7 (io), K2 IO_L26P_7 (io), K3 IO_L24N_7 (io), K4 IO_L24P_7 (io), K5 IO_L23N_7 (io), K6 IO_L23P_7 (io), K7 IO_L20N_7 (io), L1 IO_L29N_7 (io), L2 IO_L29P_7 (io), L4 IO_L33P_7 (io), L5 IO_L28N_7 (io), L6 IO_L28P_7 (io), L7 IO_L27N_7 (io), L8 IO_L27P_7/VREF_7 (io), M1 IO_L34N_7 (io), M2 IO_L34P_7 (io), M3 IO_L33N_7 (io), M5 IO_L32P_7 (io), M6 IO_L32N_7 (io), M7 IO_L31N_7 (io), M8 IO_L31P_7 (io), N1 IO_L40N_7/VREF_7 (io), N2 IO_L40P_7 (io), N3 IO_L39N_7 (io), N4 IO_L39P_7 (io), N5 IO_L38N_7 (io), N6 IO_L38P_7 (io), N7 IO_L35N_7 (io), N8 IO_L35P_7 (io), P19 IO_L35P_3 (io), P20 IO_L35N_3 (io), P21 IO_L38P_3 (io), P22 IO_L38N_3 (io), P23 IO_L39P_3 (io), P24 IO_L39N_3 (io), P25 IO_L40P_3 (io), P26 IO_L40N_3/VREF_3 (io), R19 IO_L31P_3 (io), R20 IO_L31N_3 (io), R21 IO_L32P_3 (io), R22 IO_L32N_3 (io), R24 IO_L33N_3 (io), R25 IO_L34P_3/VREF_3 (io), R26 IO_L34N_3 (io), T19 IO_L27P_3 (io), T20 IO_L27N_3 (io), T21 IO_L28P_3 (io), T22 IO_L28N_3 (io), T23 IO_L33P_3 (io), T25 IO_L29P_3 (io), T26 IO_L29N_3 (io), U20 IO_L20N_3 (io), U21 IO_L23P_3/VREF_3 (io), U22 IO_L23N_3 (io), U23 IO_L24P_3 (io), U24 IO_L24N_3 (io), U25 IO_L26P_3 (io), U26 IO_L26N_3 (io), V20 IO_L20P_3 (io), V21 IO_L16N_3 (io), V22 IO_L21P_3 (io), V23 IO_L21N_3 (io), V24 IO_L22P_3 (io), V25 IO_L22N_3 (io), W11 IO_L24P_5 (io), W12 IO_L27P_5 (io), W13 IO_L30P_5 (io), W20 IO_L10P_3 (io), W21 IO_L10N_3 (io), W22 IO_L16P_3 (io), W23 IO_L17P_3/VREF_3 (io), W24 IO_L17N_3 (io), W25 IO_L19P_3 (io), W26 IO_L19N_3 (io), Y8 IO (io), Y9 IO_L16P_5 (io), Y10 IO_L19P_5/VREF_5 (io), Y11 IO_L24N_5 (io), Y12 IO_L27N_5/VREF_5 (io), Y13 IO_L30N_5 (io), Y20 IO_L05P_3 (io), Y21 IO_L05N_3 (io), Y22 IO_L08P_3 (io), Y23 IO_L08N_3 (io), Y25 IO_L14P_3 (io), Y26 IO_L14N_3 (io)
part C pins: A1 GND (power), A2 VCCAUX (power), A9 VCCAUX (power), A18 VCCAUX (power), A24 TMS (in), A25 VCCAUX (power), A26 GND (power), AC3 M1 (in), AC4 GND (power), AC12 GND (power), AC15 GND (power), AC23 GND (power), AC24 DONE (io), AD3 GND (power), AD7 VCCO_5 (power), AD11 VCCO_5 (power), AD16 VCCO_4 (power), AD20 VCCO_4 (power), AD24 GND (power), AD26 CCLK (io), AE1 VCCAUX (power), AE2 GND (power), AE3 M0 (in), AE25 GND (power), AE26 VCCAUX (power), AF1 GND (power), AF2 VCCAUX (power), AF3 M2 (in), AF9 VCCAUX (power), AF18 VCCAUX (power), AF25 VCCAUX (power), AF26 GND (power), B1 VCCAUX (power), B2 GND (power), B24 TCK (in), B25 GND (power), B26 VCCAUX (power), C1 TDI (in), C2 HSWAP_EN (in), C3 GND (power), C7 VCCO_0 (power), C11 VCCO_0 (power), C16 VCCO_1 (power), C20 VCCO_1 (power), C24 GND (power), D3 PROG_B (in), D4 GND (power), D12 GND (power), D15 GND (power), D23 GND (power), D24 TDO (out), G3 VCCO_7 (power), G24 VCCO_2 (power), H8 VCCINT (power), H9 VCCO_0 (power), H10 VCCO_0 (power), H17 VCCO_1 (power), H18 VCCO_1 (power), H19 VCCINT (power), J1 VCCAUX (power), J8 VCCO_7 (power), J9 VCCINT (power), J10 VCCINT (power), J11 VCCO_0 (power), J12 VCCO_0 (power), J13 VCCO_0 (power), J14 VCCO_1 (power), J15 VCCO_1 (power), J16 VCCO_1 (power), J17 VCCINT (power), J18 VCCINT (power), J19 VCCO_2 (power), J26 VCCAUX (power), K8 VCCO_7 (power), K9 VCCINT (power), K10 VCCINT (power), K11 GND (power), K12 GND (power), K13 VCCO_0 (power), K14 VCCO_1 (power), K15 GND (power), K16 GND (power), K17 VCCINT (power), K18 VCCINT (power), K19 VCCO_2 (power), L3 VCCO_7 (power), L9 VCCO_7 (power), L10 GND (power), L11 GND (power), L12 GND (power), L13 GND (power), L14 GND (power), L15 GND (power), L16 GND (power), L17 GND (power), L18 VCCO_2 (power), L24 VCCO_2 (power), M4 GND (power), M9 VCCO_7 (power), M10 GND (power), M11 GND (power), M12 GND (power), M13 GND (power), M14 GND (power), M15 GND (power), M16 GND (power), M17 GND (power), M18 VCCO_2 (power), M23 GND (power), N9 VCCO_7 (power), N10 VCCO_7 (power), N11 GND (power), N12 GND (power), N13 GND (power), N14 GND (power), N15 GND (power), N16 GND (power), N17 VCCO_2 (power), N18 VCCO_2 (power), P9 VCCO_6 (power), P10 VCCO_6 (power), P11 GND (power), P12 GND (power), P13 GND (power), P14 GND (power), P15 GND (power), P16 GND (power), P17 VCCO_3 (power), P18 VCCO_3 (power), R4 GND (power), R9 VCCO_6 (power), R10 GND (power), R11 GND (power), R12 GND (power), R13 GND (power), R14 GND (power), R15 GND (power), R16 GND (power), R17 GND (power), R18 VCCO_3 (power), R23 GND (power), T3 VCCO_6 (power), T9 VCCO_6 (power), T10 GND (power), T11 GND (power), T12 GND (power), T13 GND (power), T14 GND (power), T15 GND (power), T16 GND (power), T17 GND (power), T18 VCCO_3 (power), T24 VCCO_3 (power), U8 VCCO_6 (power), U9 VCCINT (power), U10 VCCINT (power), U11 GND (power), U12 GND (power), U13 VCCO_5 (power), U14 VCCO_4 (power), U15 GND (power), U16 GND (power), U17 VCCINT (power), U18 VCCINT (power), U19 VCCO_3 (power), V1 VCCAUX (power), V8 VCCO_6 (power), V9 VCCINT (power), V10 VCCINT (power), V11 VCCO_5 (power), V12 VCCO_5 (power), V13 VCCO_5 (power), V14 VCCO_4 (power), V15 VCCO_4 (power), V16 VCCO_4 (power), V17 VCCINT (power), V18 VCCINT (power), V19 VCCO_3 (power), V26 VCCAUX (power), W8 VCCINT (power), W9 VCCO_5 (power), W10 VCCO_5 (power), W17 VCCO_4 (power), W18 VCCO_4 (power), W19 VCCINT (power), Y3 VCCO_6 (power), Y24 VCCO_3 (power)
part A text: BANK 0; BANK 6; BANK 2; BANK 4
part B text: BANK 1; BANK 7; BANK 3; BANK 5

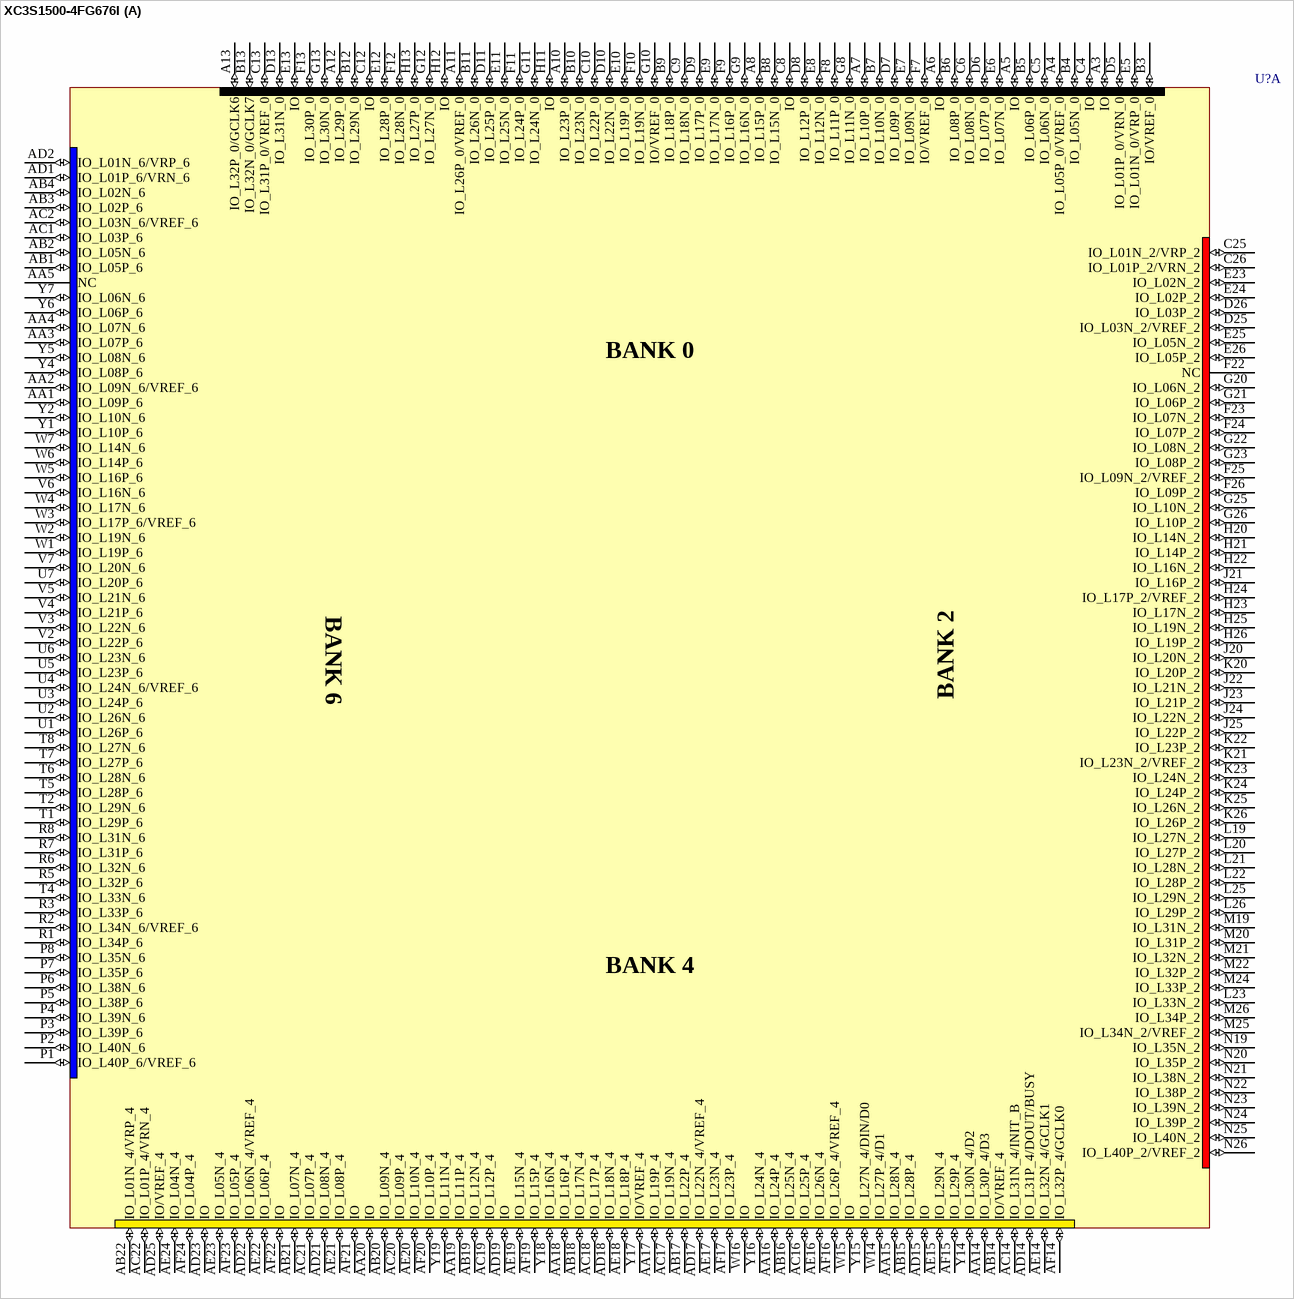
[diagram p69: symbol XC3S1500-4FG676I]

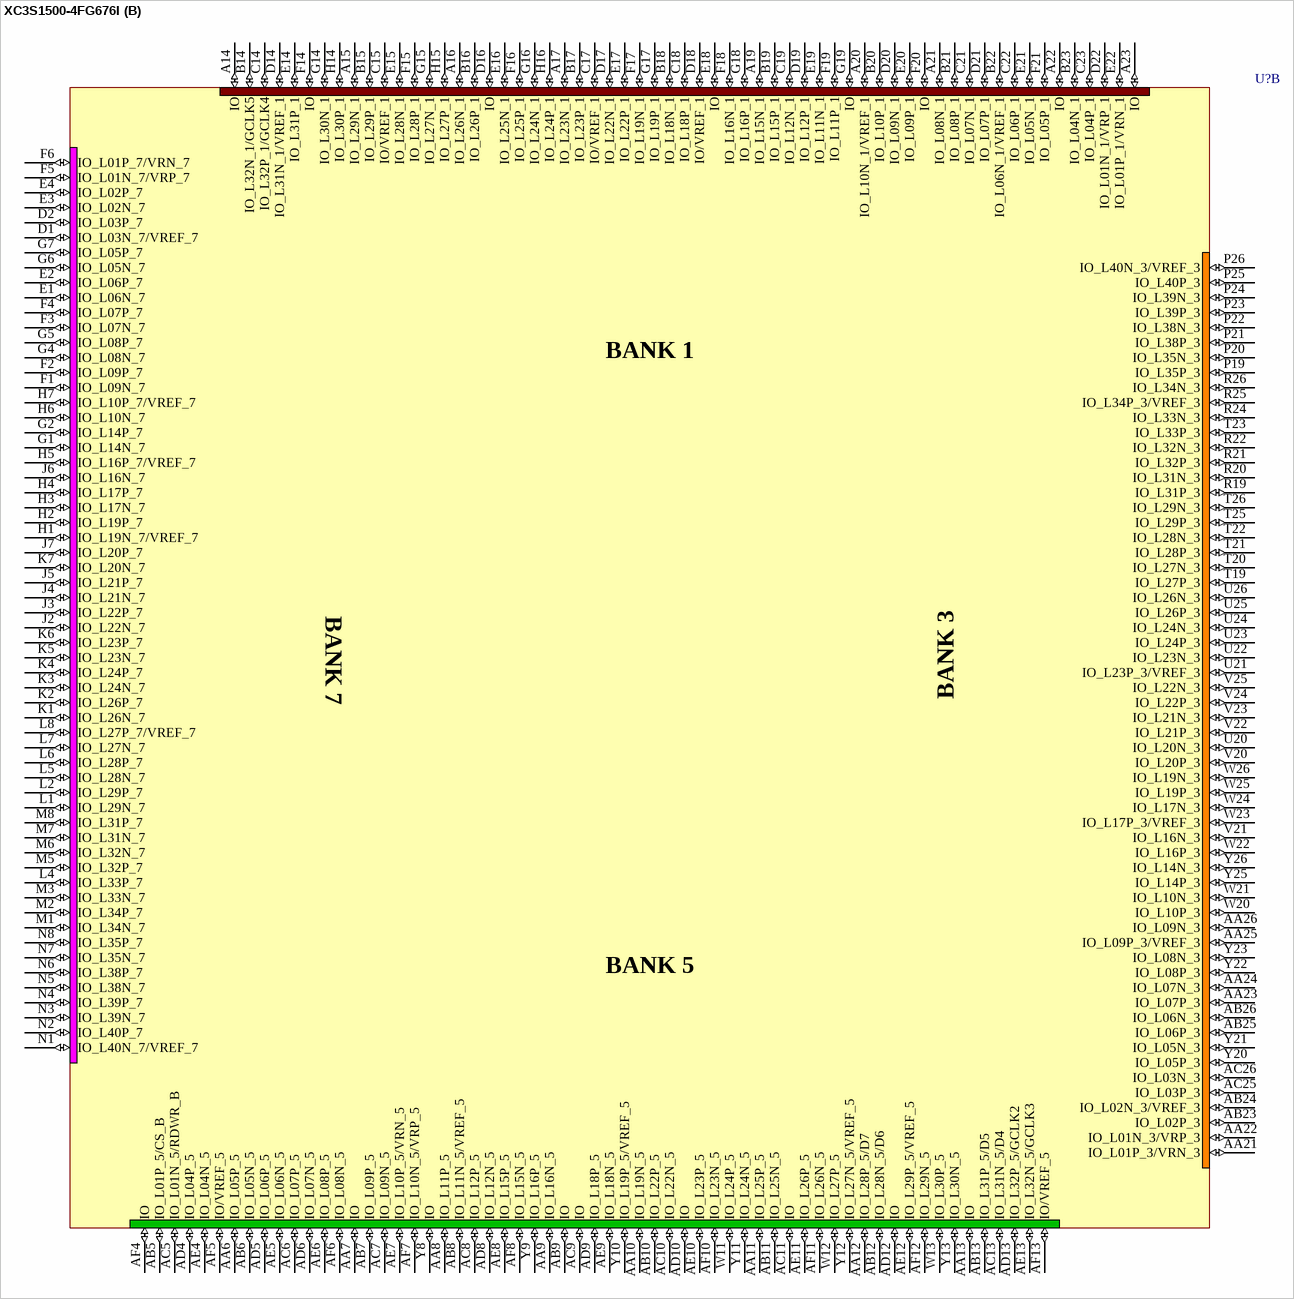
[diagram p70: symbol XC3S1500-4FG676I]

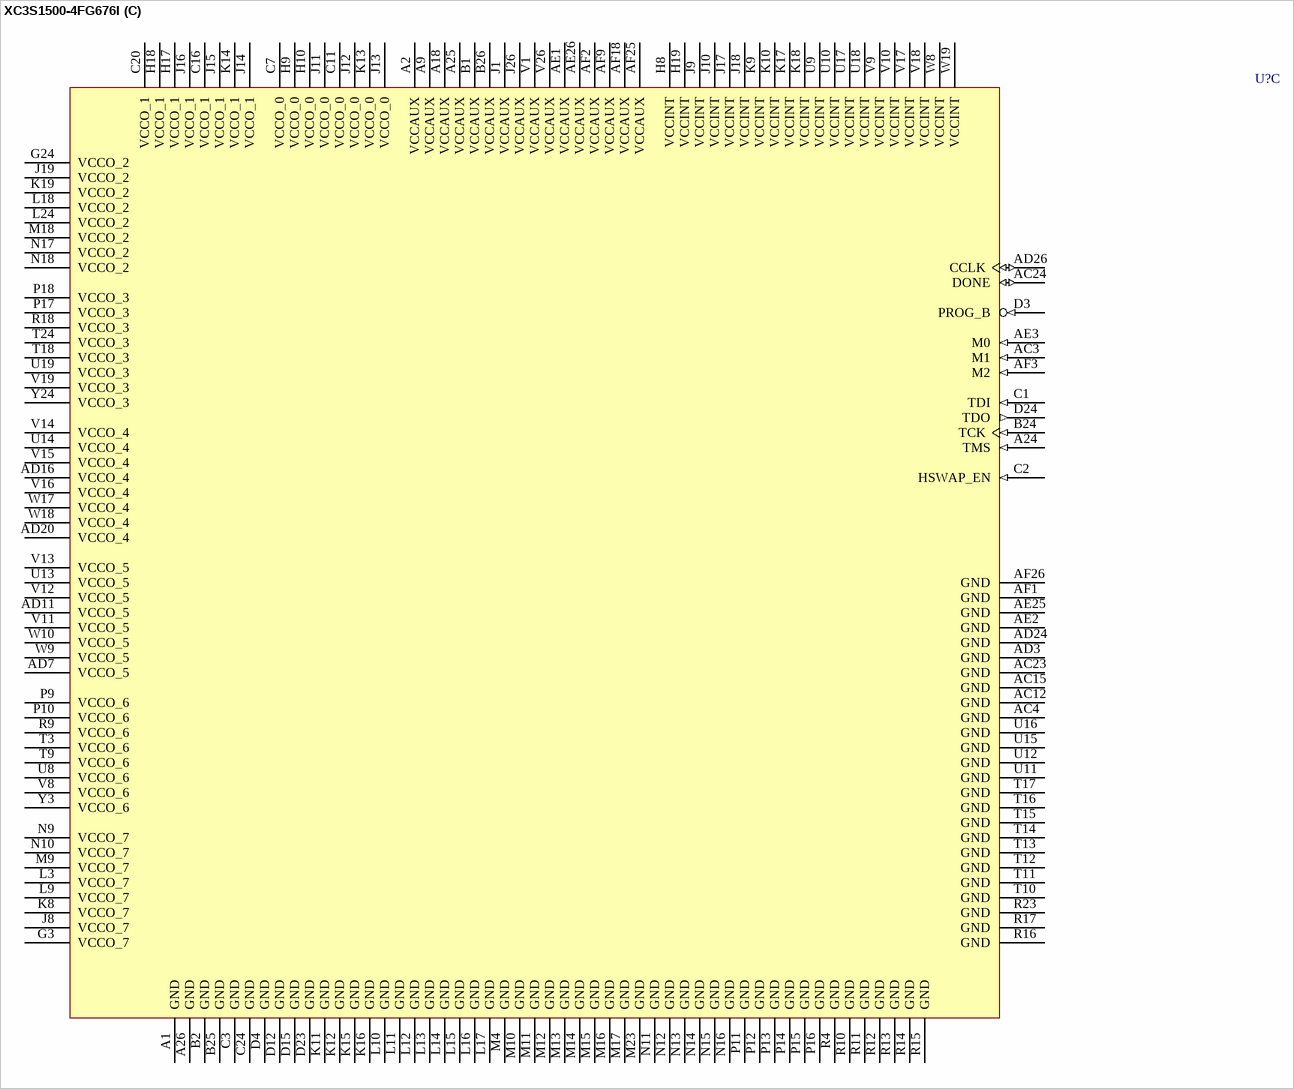
[diagram p71: symbol XC3S1500-4FG676I]